# Altium schematic symbol library dungvh03-CERN_Logic.SchLib: 486 symbols (part 9 of 54)
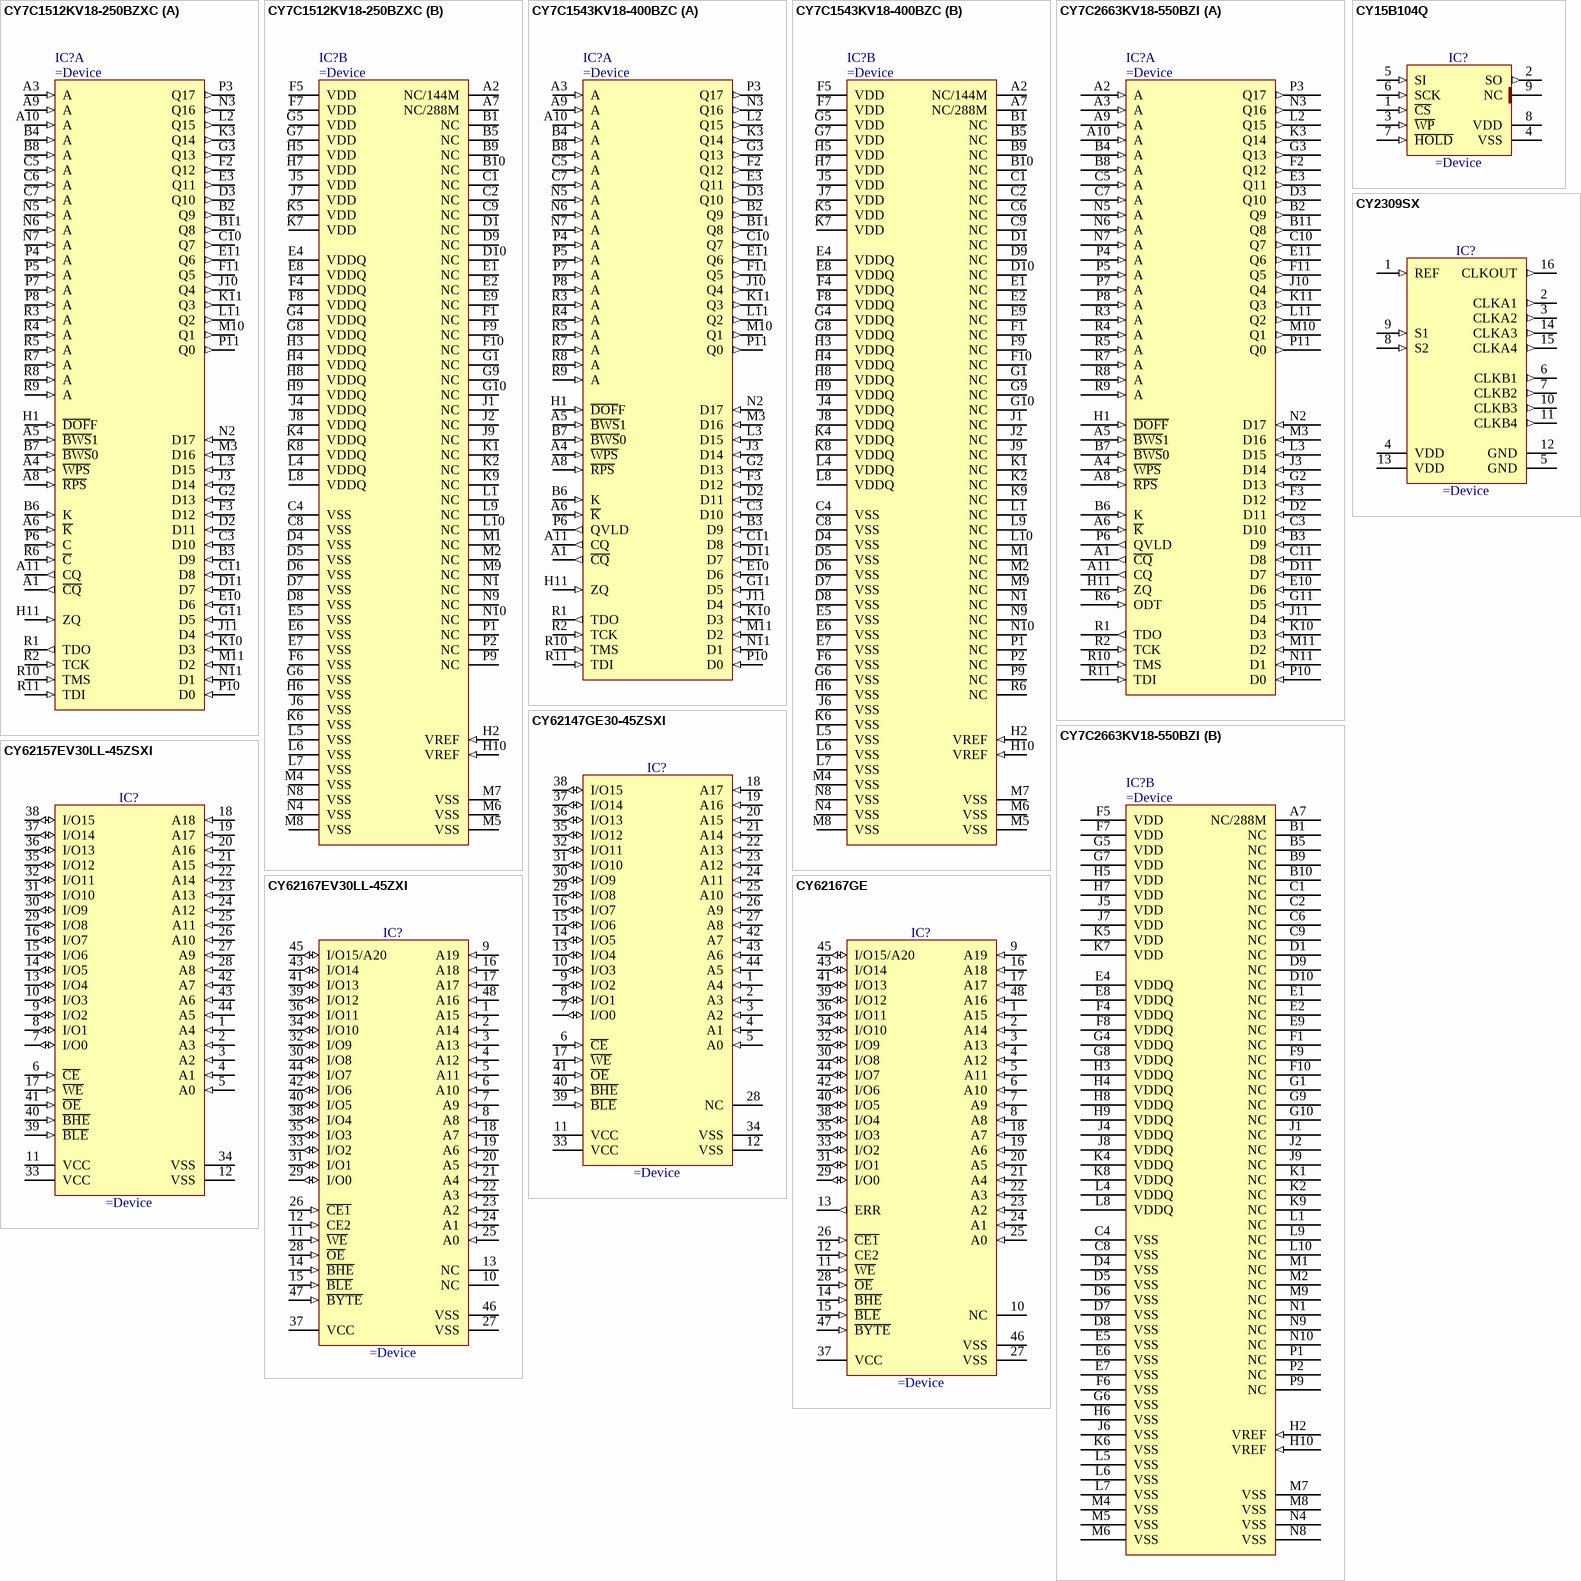
[diagram p269: symbols CY7C1512KV18-250BZXC to CY62167GE]

## CY7C2663KV18-550BZI
designator IC?
144-Mbit QDR® II+ SRAM Four-Word Burst Architecture (2.5 Cycle Read Latency) with ODT
part A pins: A1 ~{CQ} (out), A2 A (in), A3 A (in), A4 ~{WPS} (in), A5 ~{BWS}1 (in), A6 ~{K} (in), A8 ~{RPS} (in), A9 A (in), A10 A (in), A11 CQ (out), B2 Q9 (out), B3 D9 (in), B4 A (in), B6 K (in), B7 ~{BWS}0 (in), B8 A (in), B11 Q8 (out), C3 D10 (in), C5 A (in), C7 A (in), C10 Q7 (out), C11 D8 (in), D2 D11 (in), D3 Q10 (out), D11 D7 (in), E3 Q11 (out), E10 D6 (in), E11 Q6 (out), F2 Q12 (out), F3 D12 (in), F11 Q5 (out), G2 D13 (in), G3 Q13 (out), G11 D5 (in), H1 ~{DOFF} (in), H11 ZQ (in), J3 D14 (in), J10 Q4 (out), J11 D4 (in), K3 Q14 (out), K10 D3 (in), K11 Q3 (out), L2 Q15 (out), L3 D15 (in), L11 Q2 (out), M3 D16 (in), M10 Q1 (out), M11 D2 (in), N2 D17 (in), N3 Q16 (out), N5 A (in), N6 A (in), N7 A (in), N11 D1 (in), P3 Q17 (out), P4 A (in), P5 A (in), P6 QVLD (out), P7 A (in), P8 A (in), P10 D0 (in), P11 Q0 (out), R1 TDO (out), R2 TCK (in), R3 A (in), R4 A (in), R5 A (in), R6 ODT (in), R7 A (in), R8 A (in), R9 A (in), R10 TMS (in), R11 TDI (in)
part B pins: A7 NC/288M, B1 NC, B5 NC, B9 NC, B10 NC, C1 NC, C2 NC, C4 VSS (power), C6 NC, C8 VSS (power), C9 NC, D1 NC, D4 VSS (power), D5 VSS (power), D6 VSS (power), D7 VSS (power), D8 VSS (power), D9 NC, D10 NC, E1 NC, E2 NC, E4 VDDQ (power), E5 VSS (power), E6 VSS (power), E7 VSS (power), E8 VDDQ (power), E9 NC, F1 NC, F4 VDDQ (power), F5 VDD (power), F6 VSS (power), F7 VDD (power), F8 VDDQ (power), F9 NC, F10 NC, G1 NC, G4 VDDQ (power), G5 VDD (power), G6 VSS (power), G7 VDD (power), G8 VDDQ (power), G9 NC, G10 NC, H2 VREF (in), H3 VDDQ (power), H4 VDDQ (power), H5 VDD (power), H6 VSS (power), H7 VDD (power), H8 VDDQ (power), H9 VDDQ (power), H10 VREF (in), J1 NC, J2 NC, J4 VDDQ (power), J5 VDD (power), J6 VSS (power), J7 VDD (power), J8 VDDQ (power), J9 NC, K1 NC, K2 NC, K4 VDDQ (power), K5 VDD (power), K6 VSS (power), K7 VDD (power), K8 VDDQ (power), K9 NC, L1 NC, L4 VDDQ (power), L5 VSS (power), L6 VSS (power), L7 VSS (power), L8 VDDQ (power), L9 NC, L10 NC, M1 NC, M2 NC, M4 VSS (power), M5 VSS (power), M6 VSS (power), M7 VSS (power), M8 VSS (power), M9 NC, N1 NC, N4 VSS (power), N8 VSS (power), N9 NC, N10 NC, P1 NC, P2 NC, P9 NC

## CY15B104Q
designator IC?
4Mb Serial 3V F-RAM Memory
pins: 1 ~{CS} (in), 2 SO (out), 3 ~{WP} (in), 4 VSS (power), 5 SI (in), 6 SCK (in), 7 ~{HOLD} (in), 8 VDD (power), 9 NC (power) "Thermal Pad may be connected to GND or left floating (NC)"

## CY2309SX
designator IC?
Low Cost 3.3-V Zero Delay Buffer
pins: 1 REF (in), 2 CLKA1 (out), 3 CLKA2 (out), 4 VDD (power), 5 GND (power), 6 CLKB1 (out), 7 CLKB2 (out), 8 S2 (in), 9 S1 (in), 10 CLKB3 (out), 11 CLKB4 (out), 12 GND (power), 13 VDD (power), 14 CLKA3 (out), 15 CLKA4 (out), 16 CLKOUT (out)

## CY62147GE30-45ZSXI
designator IC?
4-Mbit (256K words × 16 bit),  2.2V to 3.6V, Static RAM with Error-Correcting Code (ECC)
pins: 1 A4 (in), 2 A3 (in), 3 A2 (in), 4 A1 (in), 5 A0 (in), 6 ~{CE} (in), 7 I/O0 (io), 8 I/O1 (io), 9 I/O2 (io), 10 I/O3 (io), 11 VCC (power), 12 VSS (power), 13 I/O4 (io), 14 I/O5 (io), 15 I/O6 (io), 16 I/O7 (io), 17 ~{WE} (in), 18 A17 (in), 19 A16 (in), 20 A15 (in), 21 A14 (in), 22 A13 (in), 23 A12 (in), 24 A11 (in), 25 A10 (in), 26 A9 (in), 27 A8 (in), 28 NC, 29 I/O8 (io), 30 I/O9 (io), 31 I/O10 (io), 32 I/O11 (io), 33 VCC (power), 34 VSS (power), 35 I/O12 (io), 36 I/O13 (io), 37 I/O14 (io), 38 I/O15 (io), 39 ~{BLE} (in), 40 ~{BHE} (in), 41 ~{OE} (in), 42 A7 (in), 43 A6 (in), 44 A5 (in)

## CY62157EV30LL-45ZSXI
designator IC?
8-Mbit (512 K × 16) Static RAM
pins: 1 A4 (in), 2 A3 (in), 3 A2 (in), 4 A1 (in), 5 A0 (in), 6 ~{CE} (in), 7 I/O0 (io), 8 I/O1 (io), 9 I/O2 (io), 10 I/O3 (io), 11 VCC (power), 12 VSS (power), 13 I/O4 (io), 14 I/O5 (io), 15 I/O6 (io), 16 I/O7 (io), 17 ~{WE} (in), 18 A18 (in), 19 A17 (in), 20 A16 (in), 21 A15 (in), 22 A14 (in), 23 A13 (in), 24 A12 (in), 25 A11 (in), 26 A10 (in), 27 A9 (in), 28 A8 (in), 29 I/O8 (io), 30 I/O9 (io), 31 I/O10 (io), 32 I/O11 (io), 33 VCC (power), 34 VSS (power), 35 I/O12 (io), 36 I/O13 (io), 37 I/O14 (io), 38 I/O15 (io), 39 ~{BLE} (in), 40 ~{BHE} (in), 41 ~{OE} (in), 42 A7 (in), 43 A6 (in), 44 A5 (in)

## CY62167EV30LL-45ZXI
designator IC?
16Mbit (1M x 16), 2.2V to 3.6V Static RAM
pins: 1 A15 (in), 2 A14 (in), 3 A13 (in), 4 A12 (in), 5 A11 (in), 6 A10 (in), 7 A9 (in), 8 A8 (in), 9 A19 (in), 10 NC, 11 ~{WE} (in), 12 CE2 (in), 13 NC, 14 ~{BHE} (in), 15 ~{BLE} (in), 16 A18 (in), 17 A17 (in), 18 A7 (in), 19 A6 (in), 20 A5 (in), 21 A4 (in), 22 A3 (in), 23 A2 (in), 24 A1 (in), 25 A0 (in), 26 ~{CE1} (in), 27 VSS (power), 28 ~{OE} (in), 29 I/O0 (io), 30 I/O8 (io), 31 I/O1 (io), 32 I/O9 (io), 33 I/O2 (io), 34 I/O10 (io), 35 I/O3 (io), 36 I/O11 (io), 37 VCC (power), 38 I/O4 (io), 39 I/O12 (io), 40 I/O5 (io), 41 I/O13 (io), 42 I/O6 (io), 43 I/O14 (io), 44 I/O7 (io), 45 I/O15/A20 (io), 46 VSS (power), 47 ~{BYTE} (in), 48 A16 (in)

## CY62167GE
designator IC?
16-Mbit (1M words × 16 bit / 2M words × 8 bit), 2.2V to 3.6V Static RAM with Error-Correcting Code (ECC) and ERR Pin
pins: 1 A15 (in), 2 A14 (in), 3 A13 (in), 4 A12 (in), 5 A11 (in), 6 A10 (in), 7 A9 (in), 8 A8 (in), 9 A19 (in), 10 NC, 11 ~{WE} (in), 12 CE2 (in), 13 ERR (out), 14 ~{BHE} (in), 15 ~{BLE} (in), 16 A18 (in), 17 A17 (in), 18 A7 (in), 19 A6 (in), 20 A5 (in), 21 A4 (in), 22 A3 (in), 23 A2 (in), 24 A1 (in), 25 A0 (in), 26 ~{CE1} (in), 27 VSS (power), 28 ~{OE} (in), 29 I/O0 (io), 30 I/O8 (io), 31 I/O1 (io), 32 I/O9 (io), 33 I/O2 (io), 34 I/O10 (io), 35 I/O3 (io), 36 I/O11 (io), 37 VCC (power), 38 I/O4 (io), 39 I/O12 (io), 40 I/O5 (io), 41 I/O13 (io), 42 I/O6 (io), 43 I/O14 (io), 44 I/O7 (io), 45 I/O15/A20 (io), 46 VSS (power), 47 ~{BYTE} (in), 48 A16 (in)

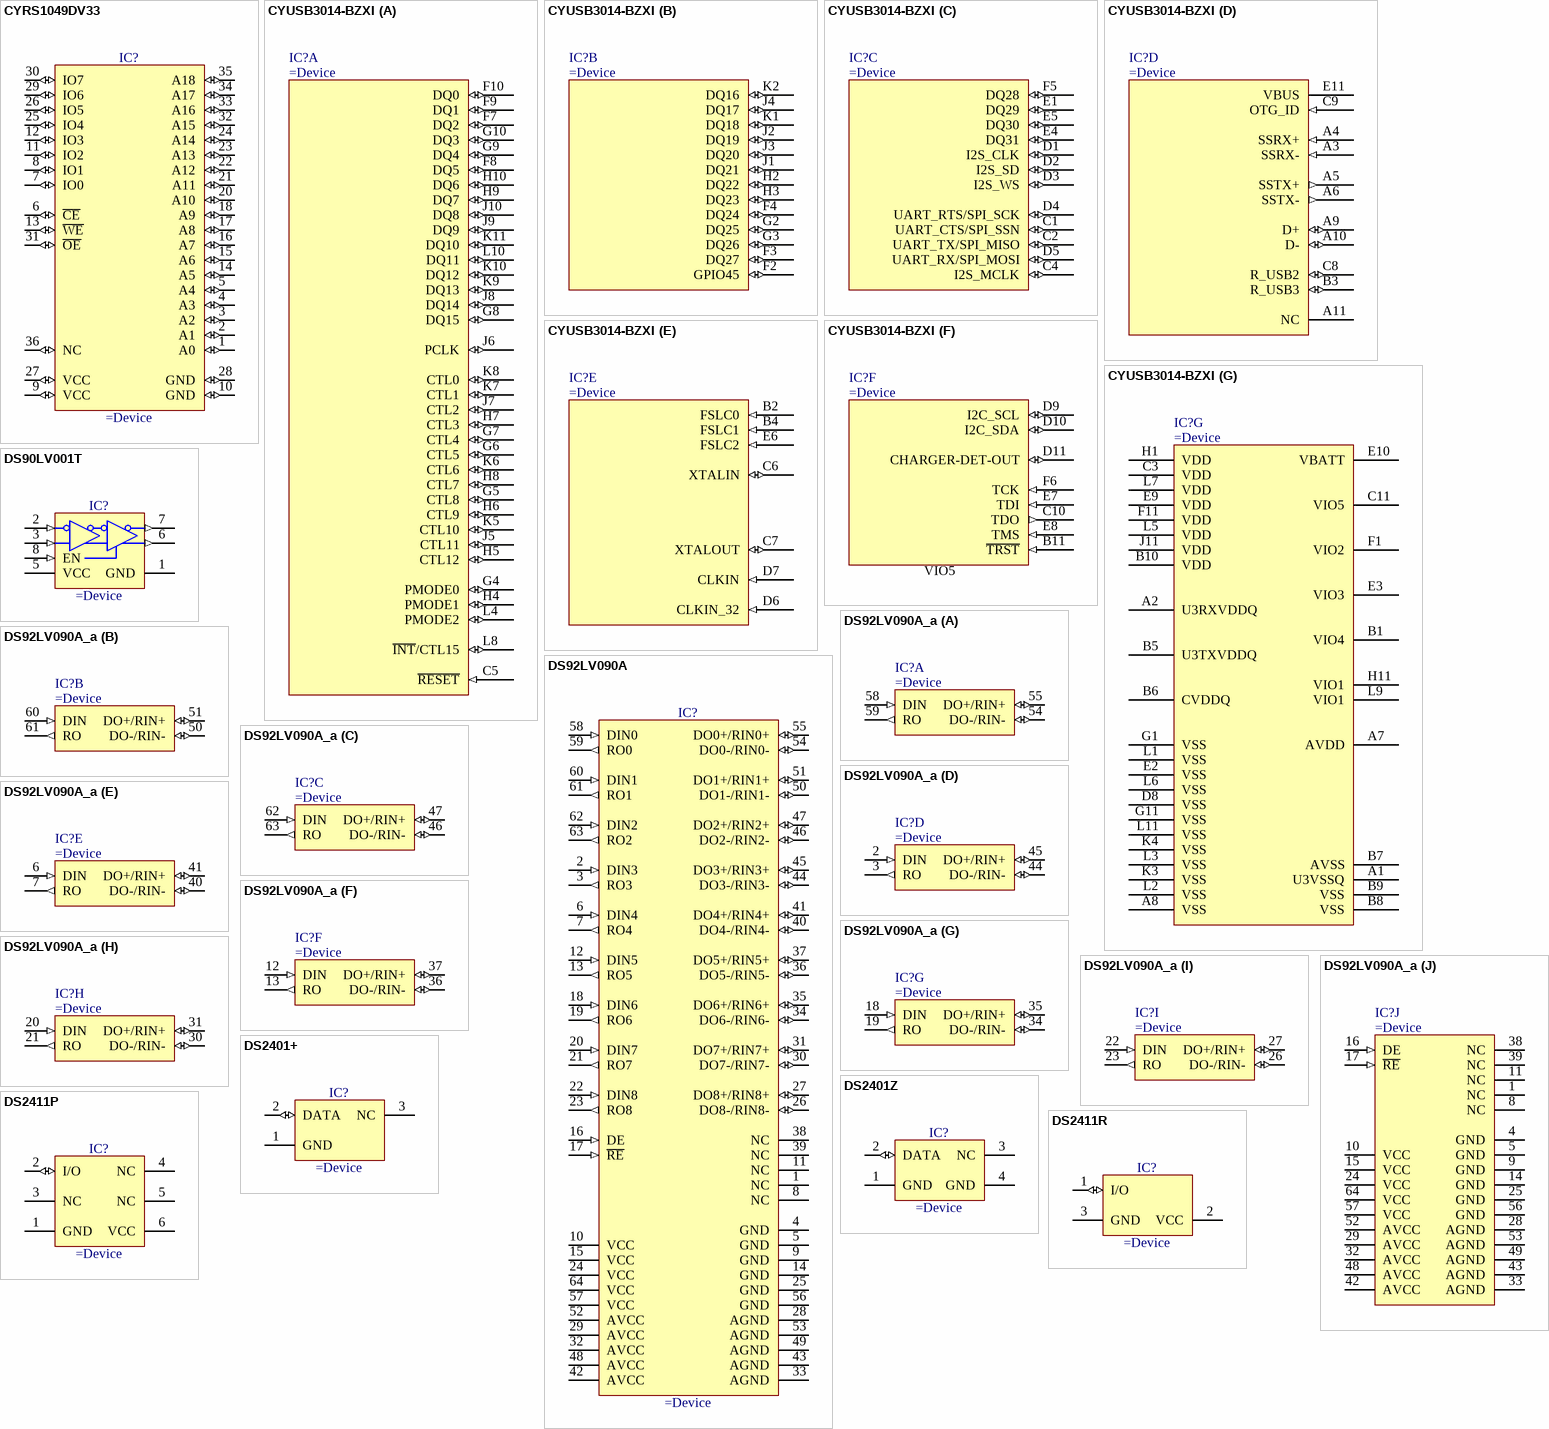
[diagram p46: symbols CYRS1049DV33 to DS2411R]

## CYRS1049DV33
designator IC?
4-Mbit (512 K × 8) Static RAM with RadStop Technology
pins: 1 A0 (io), 2 A1 (io), 3 A2 (io), 4 A3 (io), 5 A4 (io), 6 ~{CE} (io), 7 IO0 (io), 8 IO1 (io), 9 VCC (io), 10 GND (io), 11 IO2 (io), 12 IO3 (io), 13 ~{WE} (io), 14 A5 (io), 15 A6 (io), 16 A7 (io), 17 A8 (io), 18 A9 (io), 20 A10 (io), 21 A11 (io), 22 A12 (io), 23 A13 (io), 24 A14 (io), 25 IO4 (io), 26 IO5 (io), 27 VCC (io), 28 GND (io), 29 IO6 (io), 30 IO7 (io), 31 ~{OE} (io), 32 A15 (io), 33 A16 (io), 34 A17 (io), 35 A18 (io), 36 NC (io)

## CYUSB3014-BZXI
designator IC?
EZ-USB® FX3 SuperSpeed USB Controller
part A pins: C5 ~{RESET} (in), F7 DQ2 (io), F8 DQ5 (io), F9 DQ1 (io), F10 DQ0 (io), G4 PMODE0 (io), G5 CTL8 (io), G6 CTL5 (io), G7 CTL4 (io), G8 DQ15 (io), G9 DQ4 (io), G10 DQ3 (io), H4 PMODE1 (io), H5 CTL12 (io), H6 CTL9 (io), H7 CTL3 (io), H8 CTL7 (io), H9 DQ7 (io), H10 DQ6 (io), J5 CTL11 (io), J6 PCLK (io), J7 CTL2 (io), J8 DQ14 (io), J9 DQ9 (io), J10 DQ8 (io), K5 CTL10 (io), K6 CTL6 (io), K7 CTL1 (io), K8 CTL0 (io), K9 DQ13 (io), K10 DQ12 (io), K11 DQ10 (io), L4 PMODE2 (io), L8 ~{INT}/CTL15 (io), L10 DQ11 (io)
part B pins: F2 GPIO45 (io), F3 DQ27 (io), F4 DQ24 (io), G2 DQ25 (io), G3 DQ26 (io), H2 DQ22 (io), H3 DQ23 (io), J1 DQ21 (io), J2 DQ19 (io), J3 DQ20 (io), J4 DQ17 (io), K1 DQ18 (io), K2 DQ16 (io)
part C pins: C1 UART_CTS/SPI_SSN (io), C2 UART_TX/SPI_MISO (io), C4 I2S_MCLK (io), D1 I2S_CLK (io), D2 I2S_SD (io), D3 I2S_WS (io), D4 UART_RTS/SPI_SCK (io), D5 UART_RX/SPI_MOSI (io), E1 DQ29 (io), E4 DQ31 (io), E5 DQ30 (io), F5 DQ28 (io)
part D pins: A3 SSRX- (in), A4 SSRX+ (in), A5 SSTX+ (out), A6 SSTX- (out), A9 D+ (io), A10 D- (io), A11 NC, B3 R_USB3 (io), C8 R_USB2 (io), C9 OTG_ID (in), E11 VBUS (power)
part E pins: B2 FSLC0 (in), B4 FSLC1 (in), C6 XTALIN (io), C7 XTALOUT (io), D6 CLKIN_32 (in), D7 CLKIN (in), E6 FSLC2 (in)
part F pins: B11 ~{TRST} (in), C10 TDO (out), D9 I2C_SCL (io), D10 I2C_SDA (io), D11 CHARGER-DET-OUT (io), E7 TDI (in), E8 TMS (in), F6 TCK (in)
part G pins: A1 U3VSSQ (power), A2 U3RXVDDQ (power), A7 AVDD (power), A8 VSS (power), B1 VIO4 (power), B5 U3TXVDDQ (power), B6 CVDDQ (power), B7 AVSS (power), B8 VSS (power), B9 VSS (power), B10 VDD (power), C3 VDD (power), C11 VIO5 (power), D8 VSS (power), E2 VSS (power), E3 VIO3 (power), E9 VDD (power), E10 VBATT (power), F1 VIO2 (power), F11 VDD (power), G1 VSS (power), G11 VSS (power), H1 VDD (power), H11 VIO1 (power), J11 VDD (power), K3 VSS (power), K4 VSS (power), L1 VSS (power), L2 VSS (power), L3 VSS (power), L5 VDD (power), L6 VSS (power), L7 VDD (power), L9 VIO1 (power), L11 VSS (power)

## DS90LV001T
designator IC?
800 Mbps LVDS Buffer
pins: 1 GND (power), 2 IN- (in), 3 IN+ (in), 5 VCC (power), 6 OUT+ (out), 7 OUT- (out), 8 EN (in)

## DS92LV090A
designator IC?
9 Channel Bus LVDS Transceiver
pins: 1 NC, 2 DIN3 (in), 3 RO3 (out), 4 GND (power), 5 GND (power), 6 DIN4 (in), 7 RO4 (out), 8 NC, 9 GND (power), 10 VCC (power), 11 NC, 12 DIN5 (in), 13 RO5 (out), 14 GND (power), 15 VCC (power), 16 DE (in), 17 ~{RE} (in), 18 DIN6 (in), 19 RO6 (out), 20 DIN7 (in), 21 RO7 (out), 22 DIN8 (in), 23 RO8 (out), 24 VCC (power), 25 GND (power), 26 DO8-/RIN8- (io), 27 DO8+/RIN8+ (io), 28 AGND (power), 29 AVCC (power), 30 DO7-/RIN7- (io), 31 DO7+/RIN7+ (io), 32 AVCC (power), 33 AGND (power), 34 DO6-/RIN6- (io), 35 DO6+/RIN6+ (io), 36 DO5-/RIN5- (io), 37 DO5+/RIN5+ (io), 38 NC, 39 NC, 40 DO4-/RIN4- (io), 41 DO4+/RIN4+ (io), 42 AVCC (power), 43 AGND (power), 44 DO3-/RIN3- (io), 45 DO3+/RIN3+ (io), 46 DO2-/RIN2- (io), 47 DO2+/RIN2+ (io), 48 AVCC (power), 49 AGND (power), 50 DO1-/RIN1- (io), 51 DO1+/RIN1+ (io), 52 AVCC (power), 53 AGND (power), 54 DO0-/RIN0- (io), 55 DO0+/RIN0+ (io), 56 GND (power), 57 VCC (power), 58 DIN0 (in), 59 RO0 (out), 60 DIN1 (in), 61 RO1 (out), 62 DIN2 (in), 63 RO2 (out), 64 VCC (power)

## DS92LV090A_a
designator IC?
9 Channel Bus LVDS Transceiver
part A pins: 54 DO-/RIN- (io), 55 DO+/RIN+ (io), 58 DIN (in), 59 RO (out)
part B pins: 50 DO-/RIN- (io), 51 DO+/RIN+ (io), 60 DIN (in), 61 RO (out)
part C pins: 46 DO-/RIN- (io), 47 DO+/RIN+ (io), 62 DIN (in), 63 RO (out)
part D pins: 2 DIN (in), 3 RO (out), 44 DO-/RIN- (io), 45 DO+/RIN+ (io)
part E pins: 6 DIN (in), 7 RO (out), 40 DO-/RIN- (io), 41 DO+/RIN+ (io)
part F pins: 12 DIN (in), 13 RO (out), 36 DO-/RIN- (io), 37 DO+/RIN+ (io)
part G pins: 18 DIN (in), 19 RO (out), 34 DO-/RIN- (io), 35 DO+/RIN+ (io)
part H pins: 20 DIN (in), 21 RO (out), 30 DO-/RIN- (io), 31 DO+/RIN+ (io)
part I pins: 22 DIN (in), 23 RO (out), 26 DO-/RIN- (io), 27 DO+/RIN+ (io)
part J pins: 1 NC, 4 GND (power), 5 GND (power), 8 NC, 9 GND (power), 10 VCC (power), 11 NC, 14 GND (power), 15 VCC (power), 16 DE (in), 17 ~{RE} (in), 24 VCC (power), 25 GND (power), 28 AGND (power), 29 AVCC (power), 32 AVCC (power), 33 AGND (power), 38 NC, 39 NC, 42 AVCC (power), 43 AGND (power), 48 AVCC (power), 49 AGND (power), 52 AVCC (power), 53 AGND (power), 56 GND (power), 57 VCC (power), 64 VCC (power)

## DS2401+
designator IC?
Silicon Serial Number
pins: 1 GND (power), 2 DATA (io), 3 NC

## DS2401Z
designator IC?
Silicon Serial Number
pins: 1 GND (power), 2 DATA (io), 3 NC, 4 GND (power)

## DS2411P
designator IC?
Silicon Serial Number with VCC Input
pins: 1 GND (power), 2 I/O (io), 3 NC, 4 NC, 5 NC, 6 VCC (power)

## DS2411R
designator IC?
Silicon Serial Number with VCC Input
pins: 1 I/O (io), 2 VCC (power), 3 GND (power)

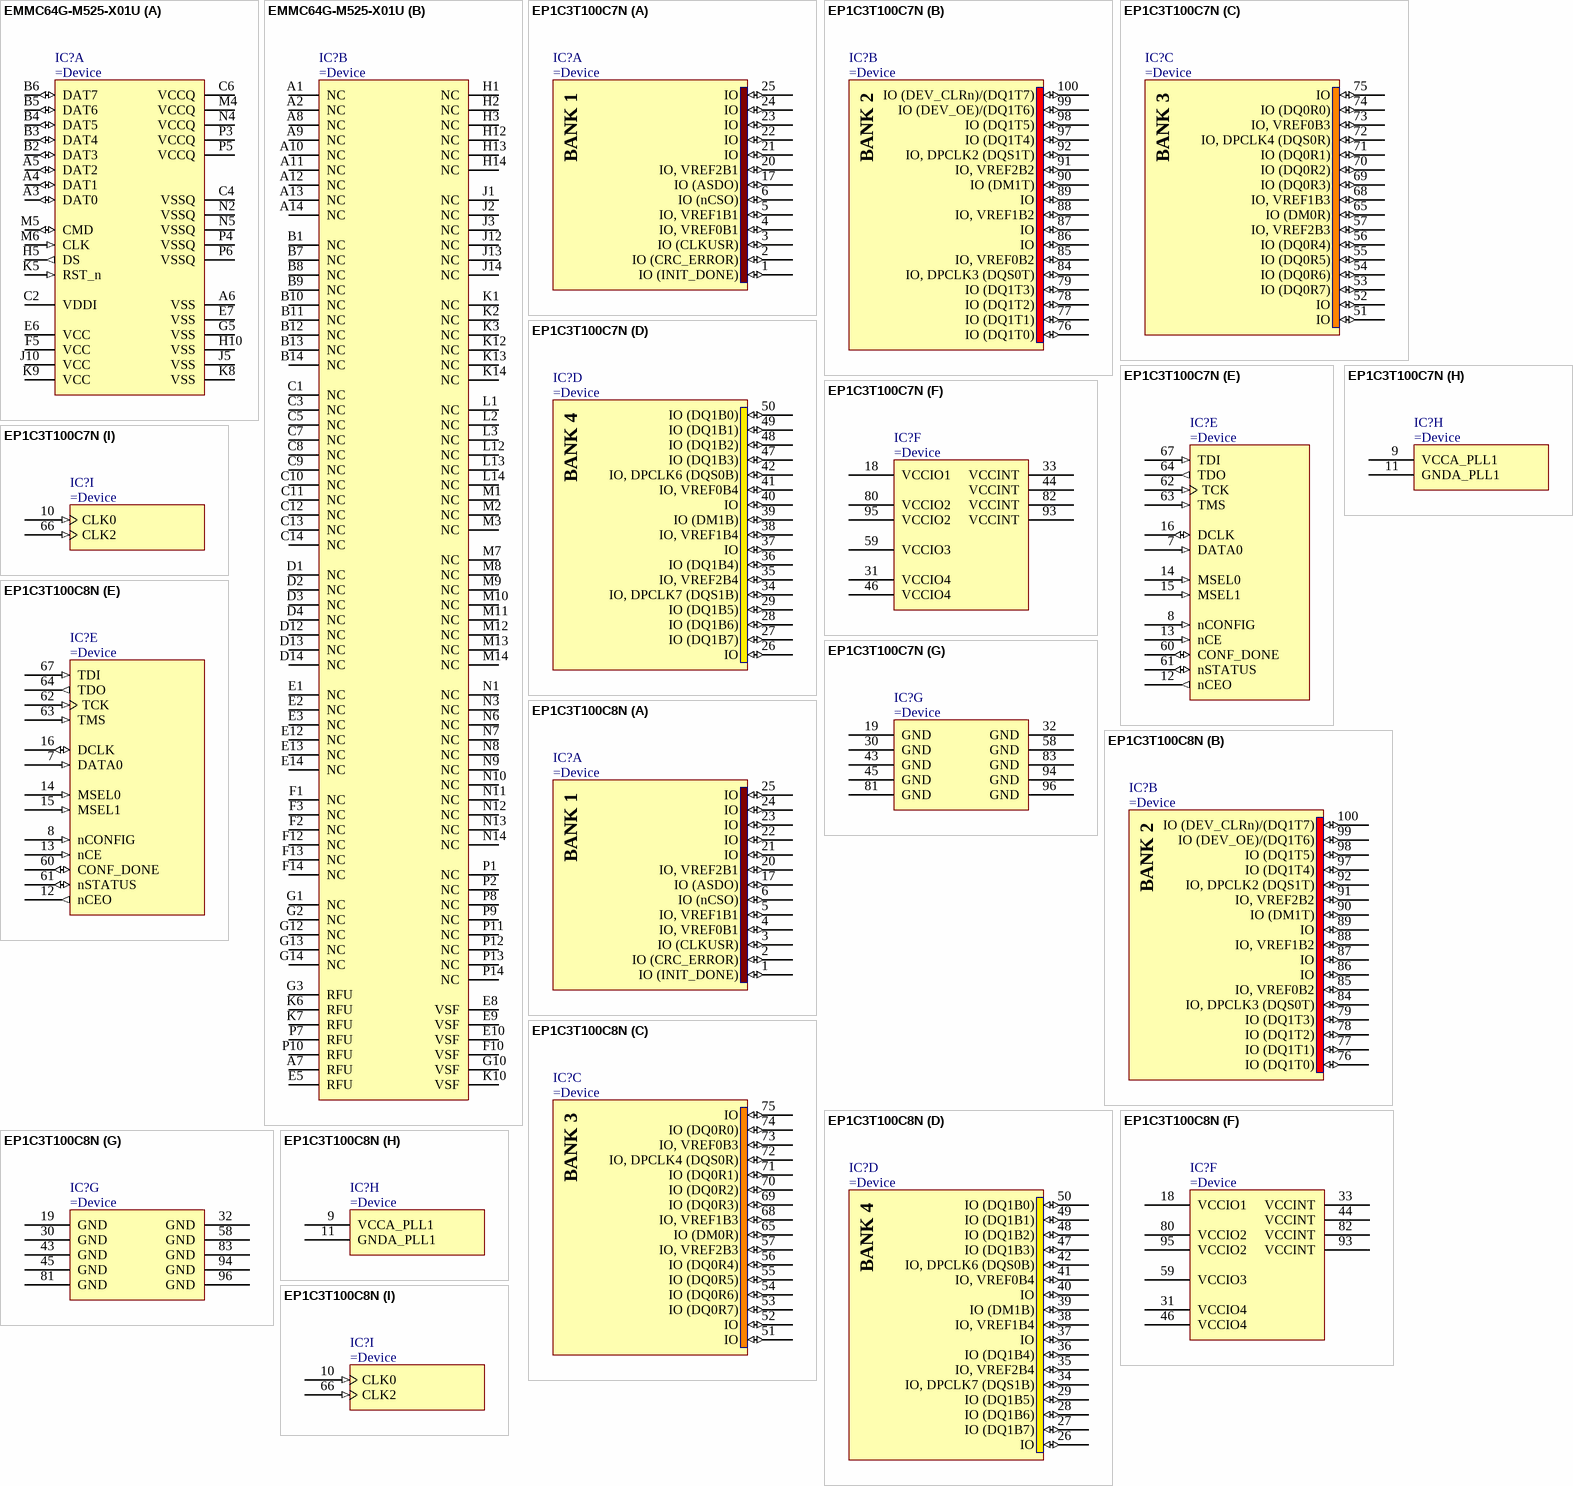
[diagram p47: symbols EMMC64G-M525-X01U to EP1C3T100C8N]

## EMMC64G-M525-X01U
designator IC?
e•MMC™ 5.0/5.1 (HS400) 64GB Flash Memory
part A pins: A3 DAT0 (io), A4 DAT1 (io), A5 DAT2 (io), A6 VSS (power), B2 DAT3 (io), B3 DAT4 (io), B4 DAT5 (io), B5 DAT6 (io), B6 DAT7 (io), C2 VDDI (power), C4 VSSQ (power), C6 VCCQ (power), E6 VCC (power), E7 VSS (power), F5 VCC (power), G5 VSS, H5 DS (out), H10 VSS (power), J5 VSS (power), J10 VCC (power), K5 RST_n (in), K8 VSS (power), K9 VCC (power), M4 VCCQ (power), M5 CMD (io), M6 CLK (in), N2 VSSQ (power), N4 VCCQ (power), N5 VSSQ (power), P3 VCCQ (power), P4 VSSQ (power), P5 VCCQ (power), P6 VSSQ (power)
part B pins: A1 NC, A2 NC, A7 RFU, A8 NC, A9 NC, A10 NC, A11 NC, A12 NC, A13 NC, A14 NC, B1 NC, B7 NC, B8 NC, B9 NC, B10 NC, B11 NC, B12 NC, B13 NC, B14 NC, C1 NC, C3 NC, C5 NC, C7 NC, C8 NC, C9 NC, C10 NC, C11 NC, C12 NC, C13 NC, C14 NC, D1 NC, D2 NC, D3 NC, D4 NC, D12 NC, D13 NC, D14 NC, E1 NC, E2 NC, E3 NC, E5 RFU, E8 VSF, E9 VSF (power), E10 VSF, E12 NC, E13 NC, E14 NC, F1 NC, F2 NC, F3 NC, F10 VSF, F12 NC, F13 NC, F14 NC, G1 NC, G2 NC, G3 RFU, G10 VSF, G12 NC, G13 NC, G14 NC, H1 NC, H2 NC, H3 NC, H12 NC, H13 NC, H14 NC, J1 NC, J2 NC, J3 NC, J12 NC, J13 NC, J14 NC, K1 NC, K2 NC, K3 NC, K6 RFU, K7 RFU, K10 VSF, K12 NC, K13 NC, K14 NC, L1 NC, L2 NC, L3 NC, L12 NC, L13 NC, L14 NC, M1 NC, M2 NC, M3 NC, M7 NC, M8 NC, M9 NC, M10 NC, M11 NC, M12 NC, M13 NC, M14 NC, N1 NC, N3 NC, N6 NC, N7 NC, N8 NC, N9 NC, N10 NC, N11 NC, N12 NC, N13 NC, N14 NC, P1 NC, P2 NC, P7 RFU, P8 NC, P9 NC, P10 RFU, P11 NC, P12 NC, P13 NC, P14 NC

## EP1C3T100C7N
designator IC?
Cyclone Family, 1.5V FPGA, 65 I/O Pins, 1 x PLL, Commercial Grade, Speed Grade 7, Pb-Free
part A pins: 1 IO (INIT_DONE) (io), 2 IO (CRC_ERROR) (io), 3 IO (CLKUSR) (io), 4 IO, VREF0B1 (io), 5 IO, VREF1B1 (io), 6 IO (nCSO) (io), 17 IO (ASDO) (io), 20 IO, VREF2B1 (io), 21 IO (io), 22 IO (io), 23 IO (io), 24 IO (io), 25 IO (io)
part B pins: 76 IO (DQ1T0) (io), 77 IO (DQ1T1) (io), 78 IO (DQ1T2) (io), 79 IO (DQ1T3) (io), 84 IO, DPCLK3 (DQS0T) (io), 85 IO, VREF0B2 (io), 86 IO (io), 87 IO (io), 88 IO, VREF1B2 (io), 89 IO (io), 90 IO (DM1T) (io), 91 IO, VREF2B2 (io), 92 IO, DPCLK2 (DQS1T) (io), 97 IO (DQ1T4) (io), 98 IO (DQ1T5) (io), 99 IO (DEV_OE)/(DQ1T6) (io), 100 IO (DEV_CLRn)/(DQ1T7) (io)
part C pins: 51 IO (io), 52 IO (io), 53 IO (DQ0R7) (io), 54 IO (DQ0R6) (io), 55 IO (DQ0R5) (io), 56 IO (DQ0R4) (io), 57 IO, VREF2B3 (io), 65 IO (DM0R) (io), 68 IO, VREF1B3 (io), 69 IO (DQ0R3) (io), 70 IO (DQ0R2) (io), 71 IO (DQ0R1) (io), 72 IO, DPCLK4 (DQS0R) (io), 73 IO, VREF0B3 (io), 74 IO (DQ0R0) (io), 75 IO (io)
part D pins: 26 IO (io), 27 IO (DQ1B7) (io), 28 IO (DQ1B6) (io), 29 IO (DQ1B5) (io), 34 IO, DPCLK7 (DQS1B) (io), 35 IO, VREF2B4 (io), 36 IO (DQ1B4) (io), 37 IO (io), 38 IO, VREF1B4 (io), 39 IO (DM1B) (io), 40 IO (io), 41 IO, VREF0B4 (io), 42 IO, DPCLK6 (DQS0B) (io), 47 IO (DQ1B3) (io), 48 IO (DQ1B2) (io), 49 IO (DQ1B1) (io), 50 IO (DQ1B0) (io)
part E pins: 7 DATA0 (in), 8 nCONFIG (in), 12 nCEO (out), 13 nCE (in), 14 MSEL0 (in), 15 MSEL1 (in), 16 DCLK (io), 60 CONF_DONE (io), 61 nSTATUS (io), 62 TCK (in), 63 TMS (in), 64 TDO (out), 67 TDI (in)
part F pins: 18 VCCIO1 (power), 31 VCCIO4 (power), 33 VCCINT (power), 44 VCCINT (power), 46 VCCIO4 (power), 59 VCCIO3 (power), 80 VCCIO2 (power), 82 VCCINT (power), 93 VCCINT (power), 95 VCCIO2 (power)
part G pins: 19 GND (power), 30 GND (power), 32 GND (power), 43 GND (power), 45 GND (power), 58 GND (power), 81 GND (power), 83 GND (power), 94 GND (power), 96 GND (power)
part H pins: 9 VCCA_PLL1 (power), 11 GNDA_PLL1 (power)
part I pins: 10 CLK0 (in), 66 CLK2 (in)
part A text: BANK 1
part B text: BANK 2
part C text: BANK 3
part D text: BANK 4

## EP1C3T100C8N
designator IC?
Cyclone Family, 1.5V FPGA, 65 I/O Pins, 1 x PLL, Commercial Grade, Speed Grade 8, Pb-Free
part A pins: 1 IO (INIT_DONE) (io), 2 IO (CRC_ERROR) (io), 3 IO (CLKUSR) (io), 4 IO, VREF0B1 (io), 5 IO, VREF1B1 (io), 6 IO (nCSO) (io), 17 IO (ASDO) (io), 20 IO, VREF2B1 (io), 21 IO (io), 22 IO (io), 23 IO (io), 24 IO (io), 25 IO (io)
part B pins: 76 IO (DQ1T0) (io), 77 IO (DQ1T1) (io), 78 IO (DQ1T2) (io), 79 IO (DQ1T3) (io), 84 IO, DPCLK3 (DQS0T) (io), 85 IO, VREF0B2 (io), 86 IO (io), 87 IO (io), 88 IO, VREF1B2 (io), 89 IO (io), 90 IO (DM1T) (io), 91 IO, VREF2B2 (io), 92 IO, DPCLK2 (DQS1T) (io), 97 IO (DQ1T4) (io), 98 IO (DQ1T5) (io), 99 IO (DEV_OE)/(DQ1T6) (io), 100 IO (DEV_CLRn)/(DQ1T7) (io)
part C pins: 51 IO (io), 52 IO (io), 53 IO (DQ0R7) (io), 54 IO (DQ0R6) (io), 55 IO (DQ0R5) (io), 56 IO (DQ0R4) (io), 57 IO, VREF2B3 (io), 65 IO (DM0R) (io), 68 IO, VREF1B3 (io), 69 IO (DQ0R3) (io), 70 IO (DQ0R2) (io), 71 IO (DQ0R1) (io), 72 IO, DPCLK4 (DQS0R) (io), 73 IO, VREF0B3 (io), 74 IO (DQ0R0) (io), 75 IO (io)
part D pins: 26 IO (io), 27 IO (DQ1B7) (io), 28 IO (DQ1B6) (io), 29 IO (DQ1B5) (io), 34 IO, DPCLK7 (DQS1B) (io), 35 IO, VREF2B4 (io), 36 IO (DQ1B4) (io), 37 IO (io), 38 IO, VREF1B4 (io), 39 IO (DM1B) (io), 40 IO (io), 41 IO, VREF0B4 (io), 42 IO, DPCLK6 (DQS0B) (io), 47 IO (DQ1B3) (io), 48 IO (DQ1B2) (io), 49 IO (DQ1B1) (io), 50 IO (DQ1B0) (io)
part E pins: 7 DATA0 (in), 8 nCONFIG (in), 12 nCEO (out), 13 nCE (in), 14 MSEL0 (in), 15 MSEL1 (in), 16 DCLK (io), 60 CONF_DONE (io), 61 nSTATUS (io), 62 TCK (in), 63 TMS (in), 64 TDO (out), 67 TDI (in)
part F pins: 18 VCCIO1 (power), 31 VCCIO4 (power), 33 VCCINT (power), 44 VCCINT (power), 46 VCCIO4 (power), 59 VCCIO3 (power), 80 VCCIO2 (power), 82 VCCINT (power), 93 VCCINT (power), 95 VCCIO2 (power)
part G pins: 19 GND (power), 30 GND (power), 32 GND (power), 43 GND (power), 45 GND (power), 58 GND (power), 81 GND (power), 83 GND (power), 94 GND (power), 96 GND (power)
part H pins: 9 VCCA_PLL1 (power), 11 GNDA_PLL1 (power)
part I pins: 10 CLK0 (in), 66 CLK2 (in)
part A text: BANK 1
part B text: BANK 2
part C text: BANK 3
part D text: BANK 4

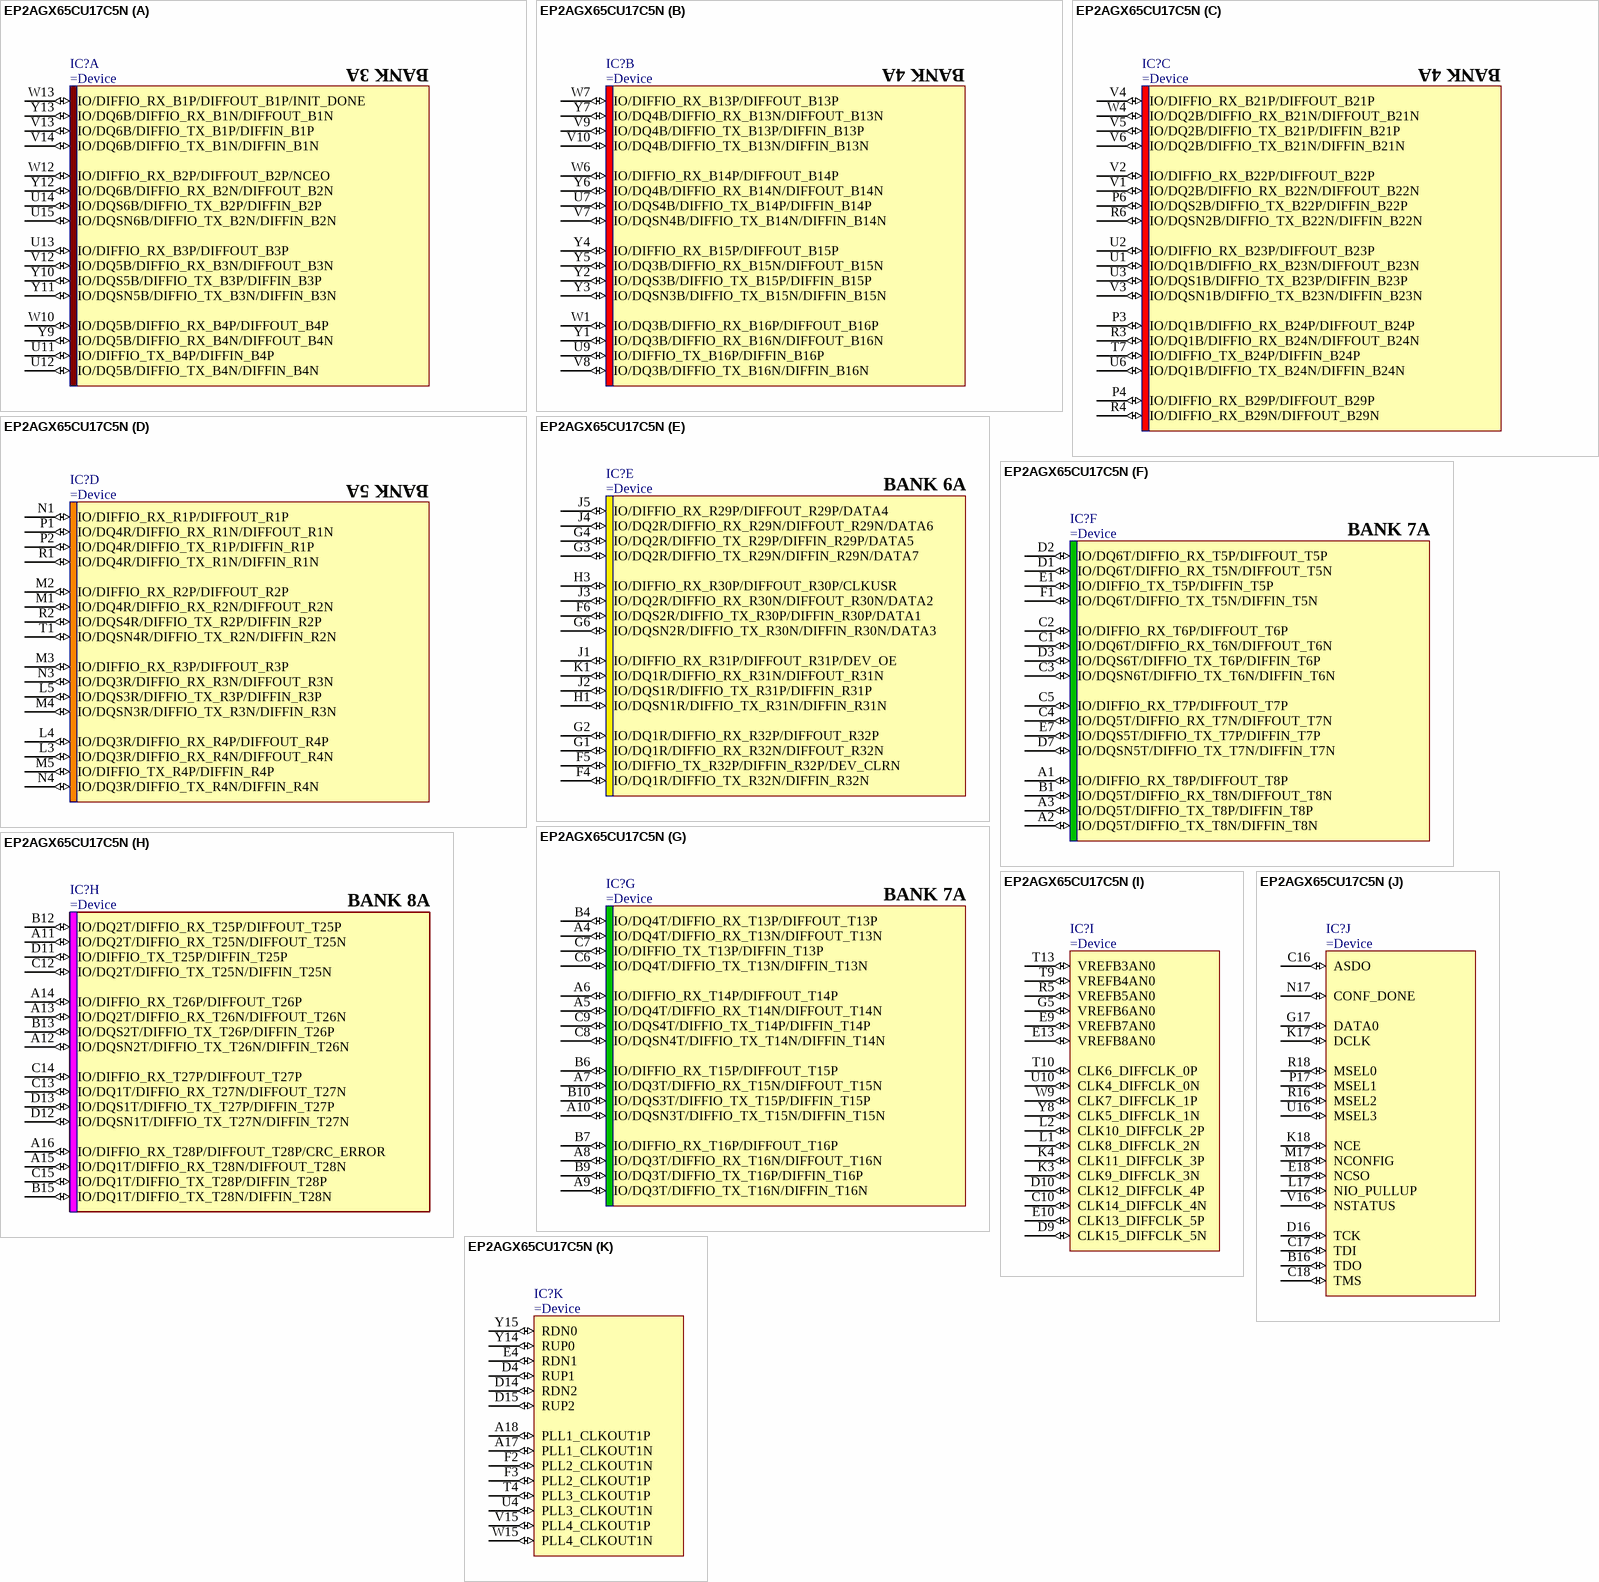
[diagram p48: symbol EP2AGX65CU17C5N]

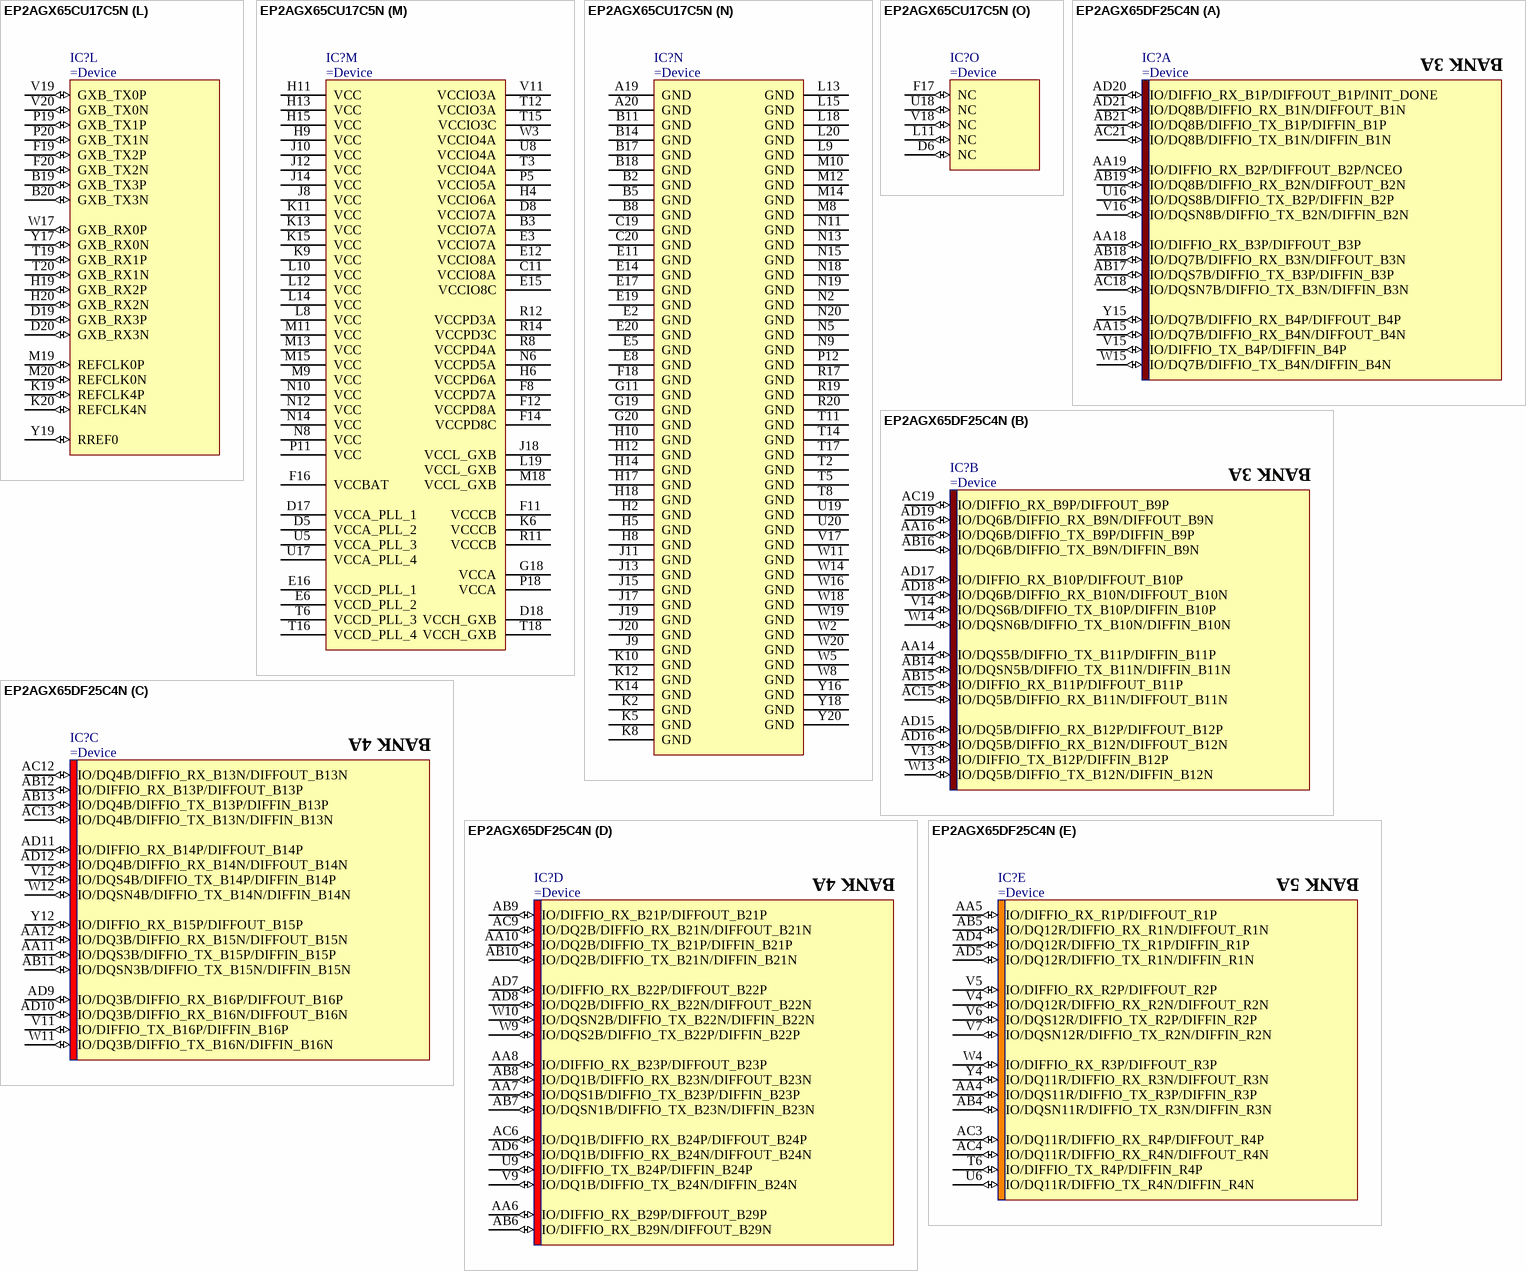
[diagram p49: symbols EP2AGX65CU17C5N to EP2AGX65DF25C4N]

## EP2AGX65CU17C5N
designator IC?
part A pins: U11 IO/DIFFIO_TX_B4P/DIFFIN_B4P (io), U12 IO/DQ5B/DIFFIO_TX_B4N/DIFFIN_B4N (io), U13 IO/DIFFIO_RX_B3P/DIFFOUT_B3P (io), U14 IO/DQS6B/DIFFIO_TX_B2P/DIFFIN_B2P (io), U15 IO/DQSN6B/DIFFIO_TX_B2N/DIFFIN_B2N (io), V12 IO/DQ5B/DIFFIO_RX_B3N/DIFFOUT_B3N (io), V13 IO/DQ6B/DIFFIO_TX_B1P/DIFFIN_B1P (io), V14 IO/DQ6B/DIFFIO_TX_B1N/DIFFIN_B1N (io), W10 IO/DQ5B/DIFFIO_RX_B4P/DIFFOUT_B4P (io), W12 IO/DIFFIO_RX_B2P/DIFFOUT_B2P/NCEO (io), W13 IO/DIFFIO_RX_B1P/DIFFOUT_B1P/INIT_DONE (io), Y9 IO/DQ5B/DIFFIO_RX_B4N/DIFFOUT_B4N (io), Y10 IO/DQS5B/DIFFIO_TX_B3P/DIFFIN_B3P (io), Y11 IO/DQSN5B/DIFFIO_TX_B3N/DIFFIN_B3N (io), Y12 IO/DQ6B/DIFFIO_RX_B2N/DIFFOUT_B2N (io), Y13 IO/DQ6B/DIFFIO_RX_B1N/DIFFOUT_B1N (io)
part B pins: U7 IO/DQS4B/DIFFIO_TX_B14P/DIFFIN_B14P (io), U9 IO/DIFFIO_TX_B16P/DIFFIN_B16P (io), V7 IO/DQSN4B/DIFFIO_TX_B14N/DIFFIN_B14N (io), V8 IO/DQ3B/DIFFIO_TX_B16N/DIFFIN_B16N (io), V9 IO/DQ4B/DIFFIO_TX_B13P/DIFFIN_B13P (io), V10 IO/DQ4B/DIFFIO_TX_B13N/DIFFIN_B13N (io), W1 IO/DQ3B/DIFFIO_RX_B16P/DIFFOUT_B16P (io), W6 IO/DIFFIO_RX_B14P/DIFFOUT_B14P (io), W7 IO/DIFFIO_RX_B13P/DIFFOUT_B13P (io), Y1 IO/DQ3B/DIFFIO_RX_B16N/DIFFOUT_B16N (io), Y2 IO/DQS3B/DIFFIO_TX_B15P/DIFFIN_B15P (io), Y3 IO/DQSN3B/DIFFIO_TX_B15N/DIFFIN_B15N (io), Y4 IO/DIFFIO_RX_B15P/DIFFOUT_B15P (io), Y5 IO/DQ3B/DIFFIO_RX_B15N/DIFFOUT_B15N (io), Y6 IO/DQ4B/DIFFIO_RX_B14N/DIFFOUT_B14N (io), Y7 IO/DQ4B/DIFFIO_RX_B13N/DIFFOUT_B13N (io)
part C pins: P3 IO/DQ1B/DIFFIO_RX_B24P/DIFFOUT_B24P (io), P4 IO/DIFFIO_RX_B29P/DIFFOUT_B29P (io), P6 IO/DQS2B/DIFFIO_TX_B22P/DIFFIN_B22P (io), R3 IO/DQ1B/DIFFIO_RX_B24N/DIFFOUT_B24N (io), R4 IO/DIFFIO_RX_B29N/DIFFOUT_B29N (io), R6 IO/DQSN2B/DIFFIO_TX_B22N/DIFFIN_B22N (io), T7 IO/DIFFIO_TX_B24P/DIFFIN_B24P (io), U1 IO/DQ1B/DIFFIO_RX_B23N/DIFFOUT_B23N (io), U2 IO/DIFFIO_RX_B23P/DIFFOUT_B23P (io), U3 IO/DQS1B/DIFFIO_TX_B23P/DIFFIN_B23P (io), U6 IO/DQ1B/DIFFIO_TX_B24N/DIFFIN_B24N (io), V1 IO/DQ2B/DIFFIO_RX_B22N/DIFFOUT_B22N (io), V2 IO/DIFFIO_RX_B22P/DIFFOUT_B22P (io), V3 IO/DQSN1B/DIFFIO_TX_B23N/DIFFIN_B23N (io), V4 IO/DIFFIO_RX_B21P/DIFFOUT_B21P (io), V5 IO/DQ2B/DIFFIO_TX_B21P/DIFFIN_B21P (io), V6 IO/DQ2B/DIFFIO_TX_B21N/DIFFIN_B21N (io), W4 IO/DQ2B/DIFFIO_RX_B21N/DIFFOUT_B21N (io)
part D pins: L3 IO/DQ3R/DIFFIO_RX_R4N/DIFFOUT_R4N (io), L4 IO/DQ3R/DIFFIO_RX_R4P/DIFFOUT_R4P (io), L5 IO/DQS3R/DIFFIO_TX_R3P/DIFFIN_R3P (io), M1 IO/DQ4R/DIFFIO_RX_R2N/DIFFOUT_R2N (io), M2 IO/DIFFIO_RX_R2P/DIFFOUT_R2P (io), M3 IO/DIFFIO_RX_R3P/DIFFOUT_R3P (io), M4 IO/DQSN3R/DIFFIO_TX_R3N/DIFFIN_R3N (io), M5 IO/DIFFIO_TX_R4P/DIFFIN_R4P (io), N1 IO/DIFFIO_RX_R1P/DIFFOUT_R1P (io), N3 IO/DQ3R/DIFFIO_RX_R3N/DIFFOUT_R3N (io), N4 IO/DQ3R/DIFFIO_TX_R4N/DIFFIN_R4N (io), P1 IO/DQ4R/DIFFIO_RX_R1N/DIFFOUT_R1N (io), P2 IO/DQ4R/DIFFIO_TX_R1P/DIFFIN_R1P (io), R1 IO/DQ4R/DIFFIO_TX_R1N/DIFFIN_R1N (io), R2 IO/DQS4R/DIFFIO_TX_R2P/DIFFIN_R2P (io), T1 IO/DQSN4R/DIFFIO_TX_R2N/DIFFIN_R2N (io)
part E pins: F4 IO/DQ1R/DIFFIO_TX_R32N/DIFFIN_R32N (io), F5 IO/DIFFIO_TX_R32P/DIFFIN_R32P/DEV_CLRN (io), F6 IO/DQS2R/DIFFIO_TX_R30P/DIFFIN_R30P/DATA1 (io), G1 IO/DQ1R/DIFFIO_RX_R32N/DIFFOUT_R32N (io), G2 IO/DQ1R/DIFFIO_RX_R32P/DIFFOUT_R32P (io), G3 IO/DQ2R/DIFFIO_TX_R29N/DIFFIN_R29N/DATA7 (io), G4 IO/DQ2R/DIFFIO_TX_R29P/DIFFIN_R29P/DATA5 (io), G6 IO/DQSN2R/DIFFIO_TX_R30N/DIFFIN_R30N/DATA3 (io), H1 IO/DQSN1R/DIFFIO_TX_R31N/DIFFIN_R31N (io), H3 IO/DIFFIO_RX_R30P/DIFFOUT_R30P/CLKUSR (io), J1 IO/DIFFIO_RX_R31P/DIFFOUT_R31P/DEV_OE (io), J2 IO/DQS1R/DIFFIO_TX_R31P/DIFFIN_R31P (io), J3 IO/DQ2R/DIFFIO_RX_R30N/DIFFOUT_R30N/DATA2 (io), J4 IO/DQ2R/DIFFIO_RX_R29N/DIFFOUT_R29N/DATA6 (io), J5 IO/DIFFIO_RX_R29P/DIFFOUT_R29P/DATA4 (io), K1 IO/DQ1R/DIFFIO_RX_R31N/DIFFOUT_R31N (io)
part F pins: A1 IO/DIFFIO_RX_T8P/DIFFOUT_T8P (io), A2 IO/DQ5T/DIFFIO_TX_T8N/DIFFIN_T8N (io), A3 IO/DQ5T/DIFFIO_TX_T8P/DIFFIN_T8P (io), B1 IO/DQ5T/DIFFIO_RX_T8N/DIFFOUT_T8N (io), C1 IO/DQ6T/DIFFIO_RX_T6N/DIFFOUT_T6N (io), C2 IO/DIFFIO_RX_T6P/DIFFOUT_T6P (io), C3 IO/DQSN6T/DIFFIO_TX_T6N/DIFFIN_T6N (io), C4 IO/DQ5T/DIFFIO_RX_T7N/DIFFOUT_T7N (io), C5 IO/DIFFIO_RX_T7P/DIFFOUT_T7P (io), D1 IO/DQ6T/DIFFIO_RX_T5N/DIFFOUT_T5N (io), D2 IO/DQ6T/DIFFIO_RX_T5P/DIFFOUT_T5P (io), D3 IO/DQS6T/DIFFIO_TX_T6P/DIFFIN_T6P (io), D7 IO/DQSN5T/DIFFIO_TX_T7N/DIFFIN_T7N (io), E1 IO/DIFFIO_TX_T5P/DIFFIN_T5P (io), E7 IO/DQS5T/DIFFIO_TX_T7P/DIFFIN_T7P (io), F1 IO/DQ6T/DIFFIO_TX_T5N/DIFFIN_T5N (io)
part G pins: A4 IO/DQ4T/DIFFIO_RX_T13N/DIFFOUT_T13N (io), A5 IO/DQ4T/DIFFIO_RX_T14N/DIFFOUT_T14N (io), A6 IO/DIFFIO_RX_T14P/DIFFOUT_T14P (io), A7 IO/DQ3T/DIFFIO_RX_T15N/DIFFOUT_T15N (io), A8 IO/DQ3T/DIFFIO_RX_T16N/DIFFOUT_T16N (io), A9 IO/DQ3T/DIFFIO_TX_T16N/DIFFIN_T16N (io), A10 IO/DQSN3T/DIFFIO_TX_T15N/DIFFIN_T15N (io), B4 IO/DQ4T/DIFFIO_RX_T13P/DIFFOUT_T13P (io), B6 IO/DIFFIO_RX_T15P/DIFFOUT_T15P (io), B7 IO/DIFFIO_RX_T16P/DIFFOUT_T16P (io), B9 IO/DQ3T/DIFFIO_TX_T16P/DIFFIN_T16P (io), B10 IO/DQS3T/DIFFIO_TX_T15P/DIFFIN_T15P (io), C6 IO/DQ4T/DIFFIO_TX_T13N/DIFFIN_T13N (io), C7 IO/DIFFIO_TX_T13P/DIFFIN_T13P (io), C8 IO/DQSN4T/DIFFIO_TX_T14N/DIFFIN_T14N (io), C9 IO/DQS4T/DIFFIO_TX_T14P/DIFFIN_T14P (io)
part H pins: A11 IO/DQ2T/DIFFIO_RX_T25N/DIFFOUT_T25N (io), A12 IO/DQSN2T/DIFFIO_TX_T26N/DIFFIN_T26N (io), A13 IO/DQ2T/DIFFIO_RX_T26N/DIFFOUT_T26N (io), A14 IO/DIFFIO_RX_T26P/DIFFOUT_T26P (io), A15 IO/DQ1T/DIFFIO_RX_T28N/DIFFOUT_T28N (io), A16 IO/DIFFIO_RX_T28P/DIFFOUT_T28P/CRC_ERROR (io), B12 IO/DQ2T/DIFFIO_RX_T25P/DIFFOUT_T25P (io), B13 IO/DQS2T/DIFFIO_TX_T26P/DIFFIN_T26P (io), B15 IO/DQ1T/DIFFIO_TX_T28N/DIFFIN_T28N (io), C12 IO/DQ2T/DIFFIO_TX_T25N/DIFFIN_T25N (io), C13 IO/DQ1T/DIFFIO_RX_T27N/DIFFOUT_T27N (io), C14 IO/DIFFIO_RX_T27P/DIFFOUT_T27P (io), C15 IO/DQ1T/DIFFIO_TX_T28P/DIFFIN_T28P (io), D11 IO/DIFFIO_TX_T25P/DIFFIN_T25P (io), D12 IO/DQSN1T/DIFFIO_TX_T27N/DIFFIN_T27N (io), D13 IO/DQS1T/DIFFIO_TX_T27P/DIFFIN_T27P (io)
part I pins: C10 CLK14_DIFFCLK_4N (io), D9 CLK15_DIFFCLK_5N (io), D10 CLK12_DIFFCLK_4P (io), E9 VREFB7AN0 (io), E10 CLK13_DIFFCLK_5P (io), E13 VREFB8AN0 (io), G5 VREFB6AN0 (io), K3 CLK9_DIFFCLK_3N (io), K4 CLK11_DIFFCLK_3P (io), L1 CLK8_DIFFCLK_2N (io), L2 CLK10_DIFFCLK_2P (io), R5 VREFB5AN0 (io), T9 VREFB4AN0 (io), T10 CLK6_DIFFCLK_0P (io), T13 VREFB3AN0 (io), U10 CLK4_DIFFCLK_0N (io), W9 CLK7_DIFFCLK_1P (io), Y8 CLK5_DIFFCLK_1N (io)
part J pins: B16 TDO (io), C16 ASDO (io), C17 TDI (io), C18 TMS (io), D16 TCK (io), E18 NCSO (io), G17 DATA0 (io), K17 DCLK (io), K18 NCE (io), L17 NIO_PULLUP (io), M17 NCONFIG (io), N17 CONF_DONE (io), P17 MSEL1 (io), R16 MSEL2 (io), R18 MSEL0 (io), U16 MSEL3 (io), V16 NSTATUS (io)
part K pins: A17 PLL1_CLKOUT1N (io), A18 PLL1_CLKOUT1P (io), D4 RUP1 (io), D14 RDN2 (io), D15 RUP2 (io), E4 RDN1 (io), F2 PLL2_CLKOUT1N (io), F3 PLL2_CLKOUT1P (io), T4 PLL3_CLKOUT1P (io), U4 PLL3_CLKOUT1N (io), V15 PLL4_CLKOUT1P (io), W15 PLL4_CLKOUT1N (io), Y14 RUP0 (io), Y15 RDN0 (io)
part L pins: B19 GXB_TX3P (io), B20 GXB_TX3N (io), D19 GXB_RX3P (io), D20 GXB_RX3N (io), F19 GXB_TX2P (io), F20 GXB_TX2N (io), H19 GXB_RX2P (io), H20 GXB_RX2N (io), K19 REFCLK4P (io), K20 REFCLK4N (io), M19 REFCLK0P (io), M20 REFCLK0N (io), P19 GXB_TX1P (io), P20 GXB_TX1N (io), T19 GXB_RX1P (io), T20 GXB_RX1N (io), V19 GXB_TX0P (io), V20 GXB_TX0N (io), W17 GXB_RX0P (io), Y17 GXB_RX0N (io), Y19 RREF0 (io)
part M pins: B3 VCCIO7A (power), C11 VCCIO8A (power), D5 VCCA_PLL_2 (power), D8 VCCIO7A (power), D17 VCCA_PLL_1 (power), D18 VCCH_GXB (power), E3 VCCIO7A (power), E6 VCCD_PLL_2 (power), E12 VCCIO8A (power), E15 VCCIO8C (power), E16 VCCD_PLL_1 (power), F8 VCCPD7A (power), F11 VCCCB (power), F12 VCCPD8A (power), F14 VCCPD8C (power), F16 VCCBAT (power), G18 VCCA (power), H4 VCCIO6A (power), H6 VCCPD6A (power), H9 VCC (power), H11 VCC (power), H13 VCC (power), H15 VCC (power), J8 VCC (power), J10 VCC (power), J12 VCC (power), J14 VCC (power), J18 VCCL_GXB (power), K6 VCCCB (power), K9 VCC (power), K11 VCC (power), K13 VCC (power), K15 VCC (power), L8 VCC (power), L10 VCC (power), L12 VCC (power), L14 VCC (power), L19 VCCL_GXB (power), M9 VCC (power), M11 VCC (power), M13 VCC (power), M15 VCC (power), M18 VCCL_GXB (power), N6 VCCPD5A (power), N8 VCC (power), N10 VCC (power), N12 VCC (power), N14 VCC (power), P5 VCCIO5A (power), P11 VCC (power), P18 VCCA (power), R8 VCCPD4A (power), R11 VCCCB (power), R12 VCCPD3A (power), R14 VCCPD3C (power), T3 VCCIO4A (power), T6 VCCD_PLL_3 (power), T12 VCCIO3A (power), T15 VCCIO3C (power), T16 VCCD_PLL_4 (power), T18 VCCH_GXB (power), U5 VCCA_PLL_3 (power), U8 VCCIO4A (power), U17 VCCA_PLL_4 (power), V11 VCCIO3A (power), W3 VCCIO4A (power)
part N pins: A19 GND (power), A20 GND (power), B2 GND (power), B5 GND (power), B8 GND (power), B11 GND (power), B14 GND (power), B17 GND (power), B18 GND (power), C19 GND (power), C20 GND (power), E2 GND (power), E5 GND (power), E8 GND (power), E11 GND (power), E14 GND (power), E17 GND (power), E19 GND (power), E20 GND (power), F18 GND (power), G11 GND (power), G19 GND (power), G20 GND (power), H2 GND (power), H5 GND (power), H8 GND (power), H10 GND (power), H12 GND (power), H14 GND (power), H17 GND (power), H18 GND (power), J9 GND (power), J11 GND (power), J13 GND (power), J15 GND (power), J17 GND (power), J19 GND (power), J20 GND (power), K2 GND (power), K5 GND (power), K8 GND (power), K10 GND (power), K12 GND (power), K14 GND (power), L9 GND (power), L13 GND (power), L15 GND (power), L18 GND (power), L20 GND (power), M8 GND (power), M10 GND (power), M12 GND (power), M14 GND (power), N2 GND (power), N5 GND (power), N9 GND (power), N11 GND (power), N13 GND (power), N15 GND (power), N18 GND (power), N19 GND (power), N20 GND (power), P12 GND (power), R17 GND (power), R19 GND (power), R20 GND (power), T2 GND (power), T5 GND (power), T8 GND (power), T11 GND (power), T14 GND (power), T17 GND (power), U19 GND (power), U20 GND (power), V17 GND (power), W2 GND (power), W5 GND (power), W8 GND (power), W11 GND (power), W14 GND (power), W16 GND (power), W18 GND (power), W19 GND (power), W20 GND (power), Y16 GND (power), Y18 GND (power), Y20 GND (power)
part O pins: D6 NC (io), F17 NC (io), L11 NC (io), U18 NC (io), V18 NC (io)
part A text: BANK 3A
part B text: BANK 4A
part C text: BANK 4A
part D text: BANK 5A
part E text: BANK 6A
part F text: BANK 7A
part G text: BANK 7A
part H text: BANK 8A

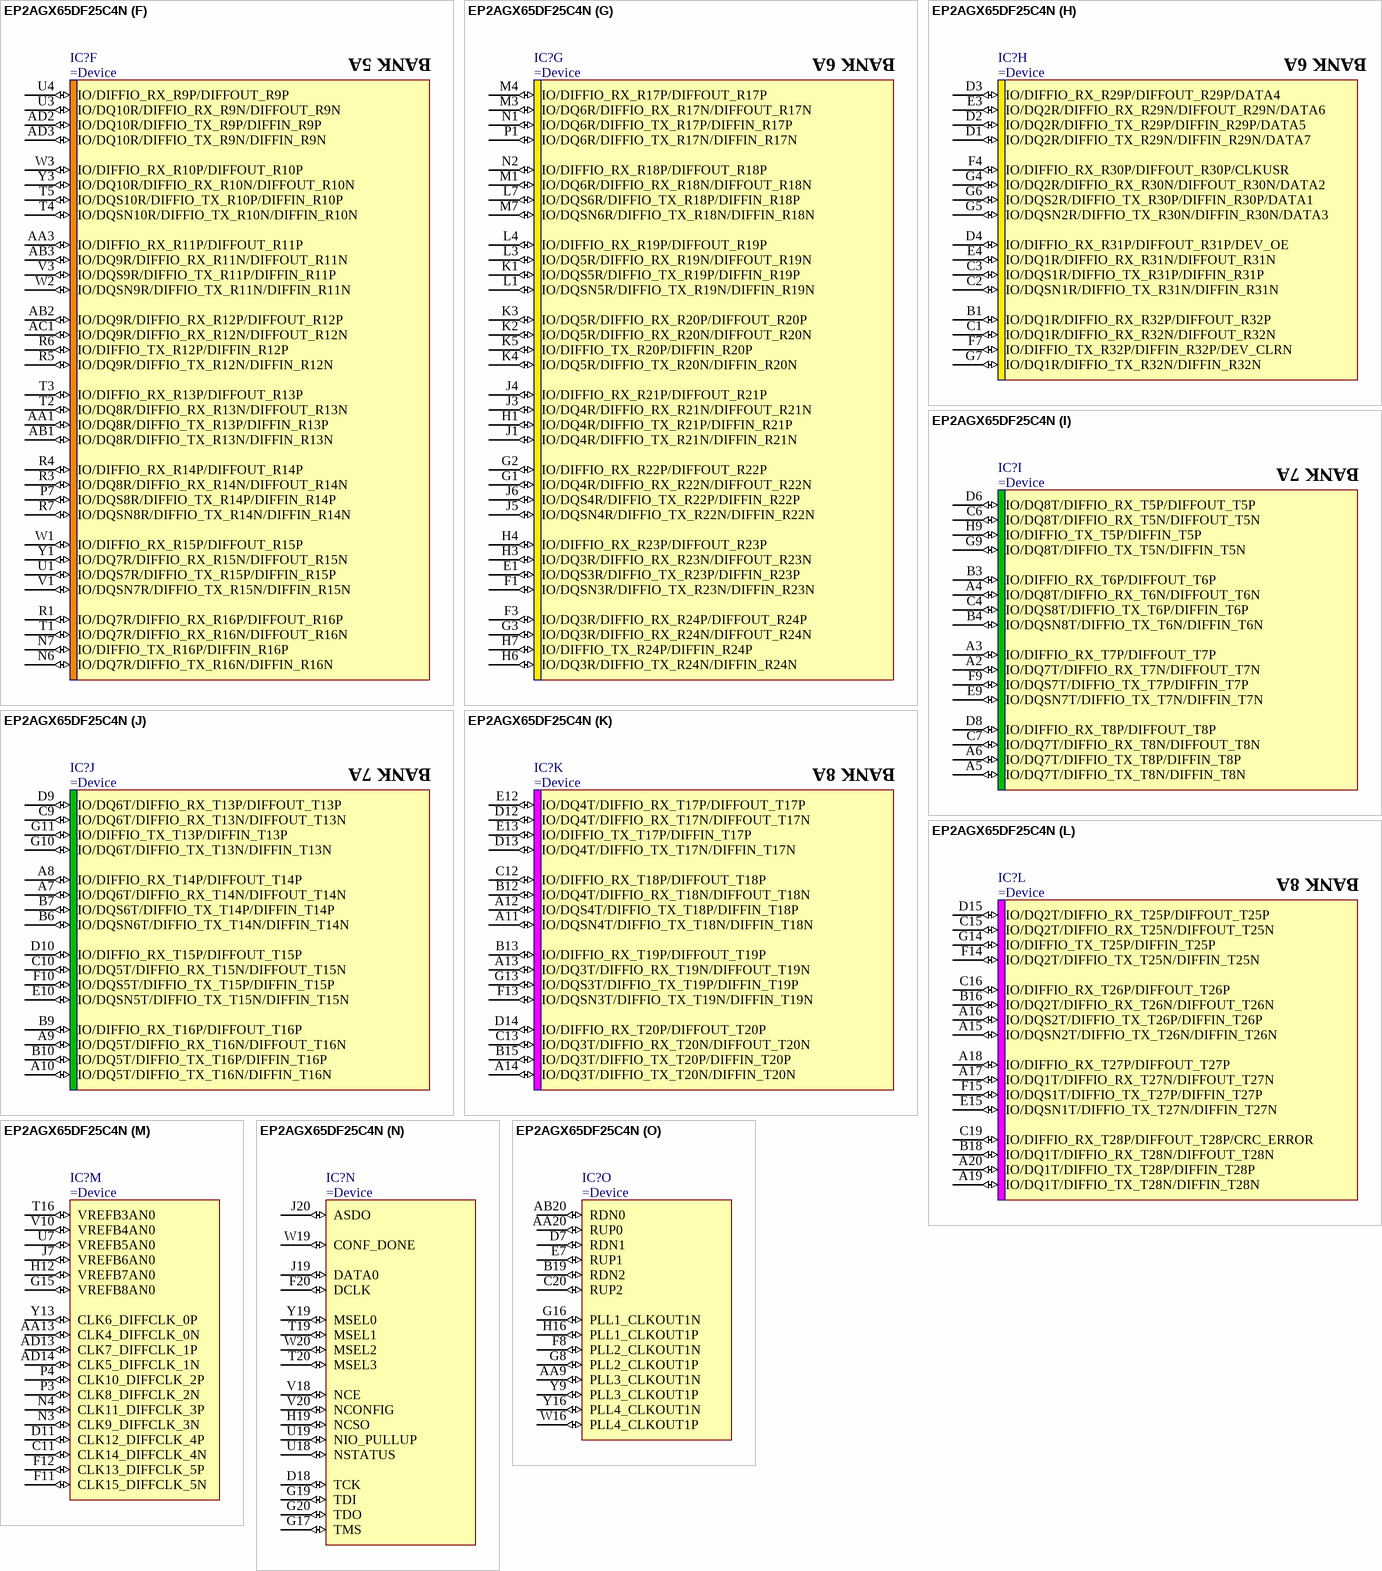
[diagram p50: symbol EP2AGX65DF25C4N]

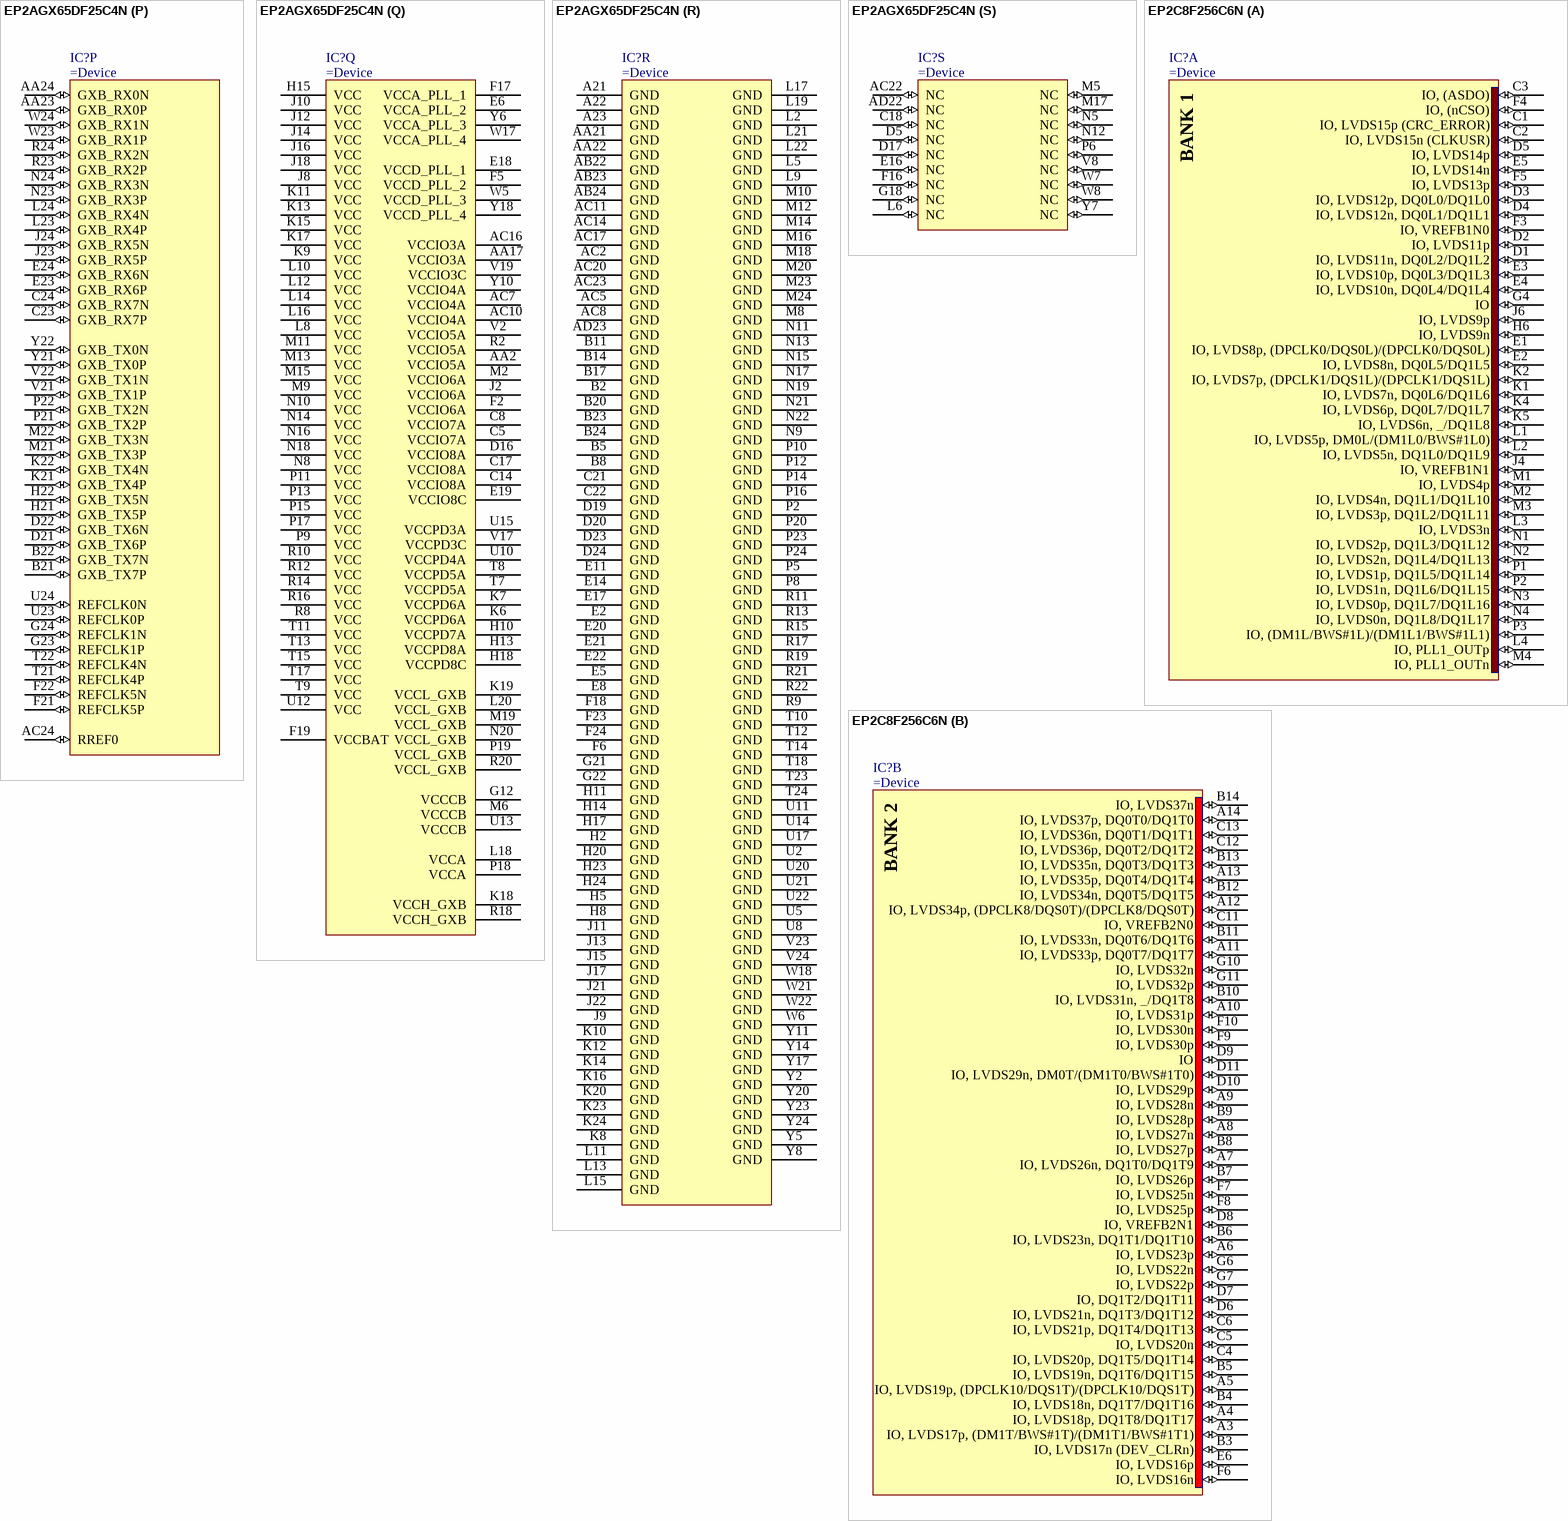
[diagram p51: symbols EP2AGX65DF25C4N to EP2C8F256C6N]

## EP2AGX65DF25C4N
designator IC?
part A pins: AA15 IO/DQ7B/DIFFIO_RX_B4N/DIFFOUT_B4N (io), AA18 IO/DIFFIO_RX_B3P/DIFFOUT_B3P (io), AA19 IO/DIFFIO_RX_B2P/DIFFOUT_B2P/NCEO (io), AB17 IO/DQS7B/DIFFIO_TX_B3P/DIFFIN_B3P (io), AB18 IO/DQ7B/DIFFIO_RX_B3N/DIFFOUT_B3N (io), AB19 IO/DQ8B/DIFFIO_RX_B2N/DIFFOUT_B2N (io), AB21 IO/DQ8B/DIFFIO_TX_B1P/DIFFIN_B1P (io), AC18 IO/DQSN7B/DIFFIO_TX_B3N/DIFFIN_B3N (io), AC21 IO/DQ8B/DIFFIO_TX_B1N/DIFFIN_B1N (io), AD20 IO/DIFFIO_RX_B1P/DIFFOUT_B1P/INIT_DONE (io), AD21 IO/DQ8B/DIFFIO_RX_B1N/DIFFOUT_B1N (io), U16 IO/DQS8B/DIFFIO_TX_B2P/DIFFIN_B2P (io), V15 IO/DIFFIO_TX_B4P/DIFFIN_B4P (io), V16 IO/DQSN8B/DIFFIO_TX_B2N/DIFFIN_B2N (io), W15 IO/DQ7B/DIFFIO_TX_B4N/DIFFIN_B4N (io), Y15 IO/DQ7B/DIFFIO_RX_B4P/DIFFOUT_B4P (io)
part B pins: AA14 IO/DQS5B/DIFFIO_TX_B11P/DIFFIN_B11P (io), AA16 IO/DQ6B/DIFFIO_TX_B9P/DIFFIN_B9P (io), AB14 IO/DQSN5B/DIFFIO_TX_B11N/DIFFIN_B11N (io), AB15 IO/DIFFIO_RX_B11P/DIFFOUT_B11P (io), AB16 IO/DQ6B/DIFFIO_TX_B9N/DIFFIN_B9N (io), AC15 IO/DQ5B/DIFFIO_RX_B11N/DIFFOUT_B11N (io), AC19 IO/DIFFIO_RX_B9P/DIFFOUT_B9P (io), AD15 IO/DQ5B/DIFFIO_RX_B12P/DIFFOUT_B12P (io), AD16 IO/DQ5B/DIFFIO_RX_B12N/DIFFOUT_B12N (io), AD17 IO/DIFFIO_RX_B10P/DIFFOUT_B10P (io), AD18 IO/DQ6B/DIFFIO_RX_B10N/DIFFOUT_B10N (io), AD19 IO/DQ6B/DIFFIO_RX_B9N/DIFFOUT_B9N (io), V13 IO/DIFFIO_TX_B12P/DIFFIN_B12P (io), V14 IO/DQS6B/DIFFIO_TX_B10P/DIFFIN_B10P (io), W13 IO/DQ5B/DIFFIO_TX_B12N/DIFFIN_B12N (io), W14 IO/DQSN6B/DIFFIO_TX_B10N/DIFFIN_B10N (io)
part C pins: AA11 IO/DQS3B/DIFFIO_TX_B15P/DIFFIN_B15P (io), AA12 IO/DQ3B/DIFFIO_RX_B15N/DIFFOUT_B15N (io), AB11 IO/DQSN3B/DIFFIO_TX_B15N/DIFFIN_B15N (io), AB12 IO/DIFFIO_RX_B13P/DIFFOUT_B13P (io), AB13 IO/DQ4B/DIFFIO_TX_B13P/DIFFIN_B13P (io), AC12 IO/DQ4B/DIFFIO_RX_B13N/DIFFOUT_B13N (io), AC13 IO/DQ4B/DIFFIO_TX_B13N/DIFFIN_B13N (io), AD9 IO/DQ3B/DIFFIO_RX_B16P/DIFFOUT_B16P (io), AD10 IO/DQ3B/DIFFIO_RX_B16N/DIFFOUT_B16N (io), AD11 IO/DIFFIO_RX_B14P/DIFFOUT_B14P (io), AD12 IO/DQ4B/DIFFIO_RX_B14N/DIFFOUT_B14N (io), V11 IO/DIFFIO_TX_B16P/DIFFIN_B16P (io), V12 IO/DQS4B/DIFFIO_TX_B14P/DIFFIN_B14P (io), W11 IO/DQ3B/DIFFIO_TX_B16N/DIFFIN_B16N (io), W12 IO/DQSN4B/DIFFIO_TX_B14N/DIFFIN_B14N (io), Y12 IO/DIFFIO_RX_B15P/DIFFOUT_B15P (io)
part D pins: AA6 IO/DIFFIO_RX_B29P/DIFFOUT_B29P (io), AA7 IO/DQS1B/DIFFIO_TX_B23P/DIFFIN_B23P (io), AA8 IO/DIFFIO_RX_B23P/DIFFOUT_B23P (io), AA10 IO/DQ2B/DIFFIO_TX_B21P/DIFFIN_B21P (io), AB6 IO/DIFFIO_RX_B29N/DIFFOUT_B29N (io), AB7 IO/DQSN1B/DIFFIO_TX_B23N/DIFFIN_B23N (io), AB8 IO/DQ1B/DIFFIO_RX_B23N/DIFFOUT_B23N (io), AB9 IO/DIFFIO_RX_B21P/DIFFOUT_B21P (io), AB10 IO/DQ2B/DIFFIO_TX_B21N/DIFFIN_B21N (io), AC6 IO/DQ1B/DIFFIO_RX_B24P/DIFFOUT_B24P (io), AC9 IO/DQ2B/DIFFIO_RX_B21N/DIFFOUT_B21N (io), AD6 IO/DQ1B/DIFFIO_RX_B24N/DIFFOUT_B24N (io), AD7 IO/DIFFIO_RX_B22P/DIFFOUT_B22P (io), AD8 IO/DQ2B/DIFFIO_RX_B22N/DIFFOUT_B22N (io), U9 IO/DIFFIO_TX_B24P/DIFFIN_B24P (io), V9 IO/DQ1B/DIFFIO_TX_B24N/DIFFIN_B24N (io), W9 IO/DQS2B/DIFFIO_TX_B22P/DIFFIN_B22P (io), W10 IO/DQSN2B/DIFFIO_TX_B22N/DIFFIN_B22N (io)
part E pins: AA4 IO/DQS11R/DIFFIO_TX_R3P/DIFFIN_R3P (io), AA5 IO/DIFFIO_RX_R1P/DIFFOUT_R1P (io), AB4 IO/DQSN11R/DIFFIO_TX_R3N/DIFFIN_R3N (io), AB5 IO/DQ12R/DIFFIO_RX_R1N/DIFFOUT_R1N (io), AC3 IO/DQ11R/DIFFIO_RX_R4P/DIFFOUT_R4P (io), AC4 IO/DQ11R/DIFFIO_RX_R4N/DIFFOUT_R4N (io), AD4 IO/DQ12R/DIFFIO_TX_R1P/DIFFIN_R1P (io), AD5 IO/DQ12R/DIFFIO_TX_R1N/DIFFIN_R1N (io), T6 IO/DIFFIO_TX_R4P/DIFFIN_R4P (io), U6 IO/DQ11R/DIFFIO_TX_R4N/DIFFIN_R4N (io), V4 IO/DQ12R/DIFFIO_RX_R2N/DIFFOUT_R2N (io), V5 IO/DIFFIO_RX_R2P/DIFFOUT_R2P (io), V6 IO/DQS12R/DIFFIO_TX_R2P/DIFFIN_R2P (io), V7 IO/DQSN12R/DIFFIO_TX_R2N/DIFFIN_R2N (io), W4 IO/DIFFIO_RX_R3P/DIFFOUT_R3P (io), Y4 IO/DQ11R/DIFFIO_RX_R3N/DIFFOUT_R3N (io)
part F pins: AA1 IO/DQ8R/DIFFIO_TX_R13P/DIFFIN_R13P (io), AA3 IO/DIFFIO_RX_R11P/DIFFOUT_R11P (io), AB1 IO/DQ8R/DIFFIO_TX_R13N/DIFFIN_R13N (io), AB2 IO/DQ9R/DIFFIO_RX_R12P/DIFFOUT_R12P (io), AB3 IO/DQ9R/DIFFIO_RX_R11N/DIFFOUT_R11N (io), AC1 IO/DQ9R/DIFFIO_RX_R12N/DIFFOUT_R12N (io), AD2 IO/DQ10R/DIFFIO_TX_R9P/DIFFIN_R9P (io), AD3 IO/DQ10R/DIFFIO_TX_R9N/DIFFIN_R9N (io), N6 IO/DQ7R/DIFFIO_TX_R16N/DIFFIN_R16N (io), N7 IO/DIFFIO_TX_R16P/DIFFIN_R16P (io), P7 IO/DQS8R/DIFFIO_TX_R14P/DIFFIN_R14P (io), R1 IO/DQ7R/DIFFIO_RX_R16P/DIFFOUT_R16P (io), R3 IO/DQ8R/DIFFIO_RX_R14N/DIFFOUT_R14N (io), R4 IO/DIFFIO_RX_R14P/DIFFOUT_R14P (io), R5 IO/DQ9R/DIFFIO_TX_R12N/DIFFIN_R12N (io), R6 IO/DIFFIO_TX_R12P/DIFFIN_R12P (io), R7 IO/DQSN8R/DIFFIO_TX_R14N/DIFFIN_R14N (io), T1 IO/DQ7R/DIFFIO_RX_R16N/DIFFOUT_R16N (io), T2 IO/DQ8R/DIFFIO_RX_R13N/DIFFOUT_R13N (io), T3 IO/DIFFIO_RX_R13P/DIFFOUT_R13P (io), T4 IO/DQSN10R/DIFFIO_TX_R10N/DIFFIN_R10N (io), T5 IO/DQS10R/DIFFIO_TX_R10P/DIFFIN_R10P (io), U1 IO/DQS7R/DIFFIO_TX_R15P/DIFFIN_R15P (io), U3 IO/DQ10R/DIFFIO_RX_R9N/DIFFOUT_R9N (io), U4 IO/DIFFIO_RX_R9P/DIFFOUT_R9P (io), V1 IO/DQSN7R/DIFFIO_TX_R15N/DIFFIN_R15N (io), V3 IO/DQS9R/DIFFIO_TX_R11P/DIFFIN_R11P (io), W1 IO/DIFFIO_RX_R15P/DIFFOUT_R15P (io), W2 IO/DQSN9R/DIFFIO_TX_R11N/DIFFIN_R11N (io), W3 IO/DIFFIO_RX_R10P/DIFFOUT_R10P (io), Y1 IO/DQ7R/DIFFIO_RX_R15N/DIFFOUT_R15N (io), Y3 IO/DQ10R/DIFFIO_RX_R10N/DIFFOUT_R10N (io)
part G pins: E1 IO/DQS3R/DIFFIO_TX_R23P/DIFFIN_R23P (io), F1 IO/DQSN3R/DIFFIO_TX_R23N/DIFFIN_R23N (io), F3 IO/DQ3R/DIFFIO_RX_R24P/DIFFOUT_R24P (io), G1 IO/DQ4R/DIFFIO_RX_R22N/DIFFOUT_R22N (io), G2 IO/DIFFIO_RX_R22P/DIFFOUT_R22P (io), G3 IO/DQ3R/DIFFIO_RX_R24N/DIFFOUT_R24N (io), H1 IO/DQ4R/DIFFIO_TX_R21P/DIFFIN_R21P (io), H3 IO/DQ3R/DIFFIO_RX_R23N/DIFFOUT_R23N (io), H4 IO/DIFFIO_RX_R23P/DIFFOUT_R23P (io), H6 IO/DQ3R/DIFFIO_TX_R24N/DIFFIN_R24N (io), H7 IO/DIFFIO_TX_R24P/DIFFIN_R24P (io), J1 IO/DQ4R/DIFFIO_TX_R21N/DIFFIN_R21N (io), J3 IO/DQ4R/DIFFIO_RX_R21N/DIFFOUT_R21N (io), J4 IO/DIFFIO_RX_R21P/DIFFOUT_R21P (io), J5 IO/DQSN4R/DIFFIO_TX_R22N/DIFFIN_R22N (io), J6 IO/DQS4R/DIFFIO_TX_R22P/DIFFIN_R22P (io), K1 IO/DQS5R/DIFFIO_TX_R19P/DIFFIN_R19P (io), K2 IO/DQ5R/DIFFIO_RX_R20N/DIFFOUT_R20N (io), K3 IO/DQ5R/DIFFIO_RX_R20P/DIFFOUT_R20P (io), K4 IO/DQ5R/DIFFIO_TX_R20N/DIFFIN_R20N (io), K5 IO/DIFFIO_TX_R20P/DIFFIN_R20P (io), L1 IO/DQSN5R/DIFFIO_TX_R19N/DIFFIN_R19N (io), L3 IO/DQ5R/DIFFIO_RX_R19N/DIFFOUT_R19N (io), L4 IO/DIFFIO_RX_R19P/DIFFOUT_R19P (io), L7 IO/DQS6R/DIFFIO_TX_R18P/DIFFIN_R18P (io), M1 IO/DQ6R/DIFFIO_RX_R18N/DIFFOUT_R18N (io), M3 IO/DQ6R/DIFFIO_RX_R17N/DIFFOUT_R17N (io), M4 IO/DIFFIO_RX_R17P/DIFFOUT_R17P (io), M7 IO/DQSN6R/DIFFIO_TX_R18N/DIFFIN_R18N (io), N1 IO/DQ6R/DIFFIO_TX_R17P/DIFFIN_R17P (io), N2 IO/DIFFIO_RX_R18P/DIFFOUT_R18P (io), P1 IO/DQ6R/DIFFIO_TX_R17N/DIFFIN_R17N (io)
part H pins: B1 IO/DQ1R/DIFFIO_RX_R32P/DIFFOUT_R32P (io), C1 IO/DQ1R/DIFFIO_RX_R32N/DIFFOUT_R32N (io), C2 IO/DQSN1R/DIFFIO_TX_R31N/DIFFIN_R31N (io), C3 IO/DQS1R/DIFFIO_TX_R31P/DIFFIN_R31P (io), D1 IO/DQ2R/DIFFIO_TX_R29N/DIFFIN_R29N/DATA7 (io), D2 IO/DQ2R/DIFFIO_TX_R29P/DIFFIN_R29P/DATA5 (io), D3 IO/DIFFIO_RX_R29P/DIFFOUT_R29P/DATA4 (io), D4 IO/DIFFIO_RX_R31P/DIFFOUT_R31P/DEV_OE (io), E3 IO/DQ2R/DIFFIO_RX_R29N/DIFFOUT_R29N/DATA6 (io), E4 IO/DQ1R/DIFFIO_RX_R31N/DIFFOUT_R31N (io), F4 IO/DIFFIO_RX_R30P/DIFFOUT_R30P/CLKUSR (io), F7 IO/DIFFIO_TX_R32P/DIFFIN_R32P/DEV_CLRN (io), G4 IO/DQ2R/DIFFIO_RX_R30N/DIFFOUT_R30N/DATA2 (io), G5 IO/DQSN2R/DIFFIO_TX_R30N/DIFFIN_R30N/DATA3 (io), G6 IO/DQS2R/DIFFIO_TX_R30P/DIFFIN_R30P/DATA1 (io), G7 IO/DQ1R/DIFFIO_TX_R32N/DIFFIN_R32N (io)
part I pins: A2 IO/DQ7T/DIFFIO_RX_T7N/DIFFOUT_T7N (io), A3 IO/DIFFIO_RX_T7P/DIFFOUT_T7P (io), A4 IO/DQ8T/DIFFIO_RX_T6N/DIFFOUT_T6N (io), A5 IO/DQ7T/DIFFIO_TX_T8N/DIFFIN_T8N (io), A6 IO/DQ7T/DIFFIO_TX_T8P/DIFFIN_T8P (io), B3 IO/DIFFIO_RX_T6P/DIFFOUT_T6P (io), B4 IO/DQSN8T/DIFFIO_TX_T6N/DIFFIN_T6N (io), C4 IO/DQS8T/DIFFIO_TX_T6P/DIFFIN_T6P (io), C6 IO/DQ8T/DIFFIO_RX_T5N/DIFFOUT_T5N (io), C7 IO/DQ7T/DIFFIO_RX_T8N/DIFFOUT_T8N (io), D6 IO/DQ8T/DIFFIO_RX_T5P/DIFFOUT_T5P (io), D8 IO/DIFFIO_RX_T8P/DIFFOUT_T8P (io), E9 IO/DQSN7T/DIFFIO_TX_T7N/DIFFIN_T7N (io), F9 IO/DQS7T/DIFFIO_TX_T7P/DIFFIN_T7P (io), G9 IO/DQ8T/DIFFIO_TX_T5N/DIFFIN_T5N (io), H9 IO/DIFFIO_TX_T5P/DIFFIN_T5P (io)
part J pins: A7 IO/DQ6T/DIFFIO_RX_T14N/DIFFOUT_T14N (io), A8 IO/DIFFIO_RX_T14P/DIFFOUT_T14P (io), A9 IO/DQ5T/DIFFIO_RX_T16N/DIFFOUT_T16N (io), A10 IO/DQ5T/DIFFIO_TX_T16N/DIFFIN_T16N (io), B6 IO/DQSN6T/DIFFIO_TX_T14N/DIFFIN_T14N (io), B7 IO/DQS6T/DIFFIO_TX_T14P/DIFFIN_T14P (io), B9 IO/DIFFIO_RX_T16P/DIFFOUT_T16P (io), B10 IO/DQ5T/DIFFIO_TX_T16P/DIFFIN_T16P (io), C9 IO/DQ6T/DIFFIO_RX_T13N/DIFFOUT_T13N (io), C10 IO/DQ5T/DIFFIO_RX_T15N/DIFFOUT_T15N (io), D9 IO/DQ6T/DIFFIO_RX_T13P/DIFFOUT_T13P (io), D10 IO/DIFFIO_RX_T15P/DIFFOUT_T15P (io), E10 IO/DQSN5T/DIFFIO_TX_T15N/DIFFIN_T15N (io), F10 IO/DQS5T/DIFFIO_TX_T15P/DIFFIN_T15P (io), G10 IO/DQ6T/DIFFIO_TX_T13N/DIFFIN_T13N (io), G11 IO/DIFFIO_TX_T13P/DIFFIN_T13P (io)
part K pins: A11 IO/DQSN4T/DIFFIO_TX_T18N/DIFFIN_T18N (io), A12 IO/DQS4T/DIFFIO_TX_T18P/DIFFIN_T18P (io), A13 IO/DQ3T/DIFFIO_RX_T19N/DIFFOUT_T19N (io), A14 IO/DQ3T/DIFFIO_TX_T20N/DIFFIN_T20N (io), B12 IO/DQ4T/DIFFIO_RX_T18N/DIFFOUT_T18N (io), B13 IO/DIFFIO_RX_T19P/DIFFOUT_T19P (io), B15 IO/DQ3T/DIFFIO_TX_T20P/DIFFIN_T20P (io), C12 IO/DIFFIO_RX_T18P/DIFFOUT_T18P (io), C13 IO/DQ3T/DIFFIO_RX_T20N/DIFFOUT_T20N (io), D12 IO/DQ4T/DIFFIO_RX_T17N/DIFFOUT_T17N (io), D13 IO/DQ4T/DIFFIO_TX_T17N/DIFFIN_T17N (io), D14 IO/DIFFIO_RX_T20P/DIFFOUT_T20P (io), E12 IO/DQ4T/DIFFIO_RX_T17P/DIFFOUT_T17P (io), E13 IO/DIFFIO_TX_T17P/DIFFIN_T17P (io), F13 IO/DQSN3T/DIFFIO_TX_T19N/DIFFIN_T19N (io), G13 IO/DQS3T/DIFFIO_TX_T19P/DIFFIN_T19P (io)
part L pins: A15 IO/DQSN2T/DIFFIO_TX_T26N/DIFFIN_T26N (io), A16 IO/DQS2T/DIFFIO_TX_T26P/DIFFIN_T26P (io), A17 IO/DQ1T/DIFFIO_RX_T27N/DIFFOUT_T27N (io), A18 IO/DIFFIO_RX_T27P/DIFFOUT_T27P (io), A19 IO/DQ1T/DIFFIO_TX_T28N/DIFFIN_T28N (io), A20 IO/DQ1T/DIFFIO_TX_T28P/DIFFIN_T28P (io), B16 IO/DQ2T/DIFFIO_RX_T26N/DIFFOUT_T26N (io), B18 IO/DQ1T/DIFFIO_RX_T28N/DIFFOUT_T28N (io), C15 IO/DQ2T/DIFFIO_RX_T25N/DIFFOUT_T25N (io), C16 IO/DIFFIO_RX_T26P/DIFFOUT_T26P (io), C19 IO/DIFFIO_RX_T28P/DIFFOUT_T28P/CRC_ERROR (io), D15 IO/DQ2T/DIFFIO_RX_T25P/DIFFOUT_T25P (io), E15 IO/DQSN1T/DIFFIO_TX_T27N/DIFFIN_T27N (io), F14 IO/DQ2T/DIFFIO_TX_T25N/DIFFIN_T25N (io), F15 IO/DQS1T/DIFFIO_TX_T27P/DIFFIN_T27P (io), G14 IO/DIFFIO_TX_T25P/DIFFIN_T25P (io)
part M pins: AA13 CLK4_DIFFCLK_0N (io), AD13 CLK7_DIFFCLK_1P (io), AD14 CLK5_DIFFCLK_1N (io), C11 CLK14_DIFFCLK_4N (io), D11 CLK12_DIFFCLK_4P (io), F11 CLK15_DIFFCLK_5N (io), F12 CLK13_DIFFCLK_5P (io), G15 VREFB8AN0 (io), H12 VREFB7AN0 (io), J7 VREFB6AN0 (io), N3 CLK9_DIFFCLK_3N (io), N4 CLK11_DIFFCLK_3P (io), P3 CLK8_DIFFCLK_2N (io), P4 CLK10_DIFFCLK_2P (io), T16 VREFB3AN0 (io), U7 VREFB5AN0 (io), V10 VREFB4AN0 (io), Y13 CLK6_DIFFCLK_0P (io)
part N pins: D18 TCK (io), F20 DCLK (io), G17 TMS (io), G19 TDI (io), G20 TDO (io), H19 NCSO (io), J19 DATA0 (io), J20 ASDO (io), T19 MSEL1 (io), T20 MSEL3 (io), U18 NSTATUS (io), U19 NIO_PULLUP (io), V18 NCE (io), V20 NCONFIG (io), W19 CONF_DONE (io), W20 MSEL2 (io), Y19 MSEL0 (io)
part O pins: AA9 PLL3_CLKOUT1N (io), AA20 RUP0 (io), AB20 RDN0 (io), B19 RDN2 (io), C20 RUP2 (io), D7 RDN1 (io), E7 RUP1 (io), F8 PLL2_CLKOUT1N (io), G8 PLL2_CLKOUT1P (io), G16 PLL1_CLKOUT1N (io), H16 PLL1_CLKOUT1P (io), W16 PLL4_CLKOUT1P (io), Y9 PLL3_CLKOUT1P (io), Y16 PLL4_CLKOUT1N (io)
part P pins: AA23 GXB_RX0P (io), AA24 GXB_RX0N (io), AC24 RREF0 (io), B21 GXB_TX7P (io), B22 GXB_TX7N (io), C23 GXB_RX7P (io), C24 GXB_RX7N (io), D21 GXB_TX6P (io), D22 GXB_TX6N (io), E23 GXB_RX6P (io), E24 GXB_RX6N (io), F21 REFCLK5P (io), F22 REFCLK5N (io), G23 REFCLK1P (io), G24 REFCLK1N (io), H21 GXB_TX5P (io), H22 GXB_TX5N (io), J23 GXB_RX5P (io), J24 GXB_RX5N (io), K21 GXB_TX4P (io), K22 GXB_TX4N (io), L23 GXB_RX4P (io), L24 GXB_RX4N (io), M21 GXB_TX3P (io), M22 GXB_TX3N (io), N23 GXB_RX3P (io), N24 GXB_RX3N (io), P21 GXB_TX2P (io), P22 GXB_TX2N (io), R23 GXB_RX2P (io), R24 GXB_RX2N (io), T21 REFCLK4P (io), T22 REFCLK4N (io), U23 REFCLK0P (io), U24 REFCLK0N (io), V21 GXB_TX1P (io), V22 GXB_TX1N (io), W23 GXB_RX1P (io), W24 GXB_RX1N (io), Y21 GXB_TX0P (io), Y22 GXB_TX0N (io)
part Q pins: AA2 VCCIO5A (power), AA17 VCCIO3A (power), AC7 VCCIO4A (power), AC10 VCCIO4A (power), AC16 VCCIO3A (power), C5 VCCIO7A (power), C8 VCCIO7A (power), C14 VCCIO8A (power), C17 VCCIO8A (power), D16 VCCIO8A (power), E6 VCCA_PLL_2 (power), E18 VCCD_PLL_1 (power), E19 VCCIO8C (power), F2 VCCIO6A (power), F5 VCCD_PLL_2 (power), F17 VCCA_PLL_1 (power), F19 VCCBAT (power), G12 VCCCB (power), H10 VCCPD7A (power), H13 VCCPD8A (power), H15 VCC (power), H18 VCCPD8C (power), J2 VCCIO6A (power), J8 VCC (power), J10 VCC (power), J12 VCC (power), J14 VCC (power), J16 VCC (power), J18 VCC (power), K6 VCCPD6A (power), K7 VCCPD6A (power), K9 VCC (power), K11 VCC (power), K13 VCC (power), K15 VCC (power), K17 VCC (power), K18 VCCH_GXB (power), K19 VCCL_GXB (power), L8 VCC (power), L10 VCC (power), L12 VCC (power), L14 VCC (power), L16 VCC (power), L18 VCCA (power), L20 VCCL_GXB (power), M2 VCCIO6A (power), M6 VCCCB (power), M9 VCC (power), M11 VCC (power), M13 VCC (power), M15 VCC (power), M19 VCCL_GXB (power), N8 VCC (power), N10 VCC (power), N14 VCC (power), N16 VCC (power), N18 VCC (power), N20 VCCL_GXB (power), P9 VCC (power), P11 VCC (power), P13 VCC (power), P15 VCC (power), P17 VCC (power), P18 VCCA (power), P19 VCCL_GXB (power), R2 VCCIO5A (power), R8 VCC (power), R10 VCC (power), R12 VCC (power), R14 VCC (power), R16 VCC (power), R18 VCCH_GXB (power), R20 VCCL_GXB (power), T7 VCCPD5A (power), T8 VCCPD5A (power), T9 VCC (power), T11 VCC (power), T13 VCC (power), T15 VCC (power), T17 VCC (power), U10 VCCPD4A (power), U12 VCC (power), U13 VCCCB (power), U15 VCCPD3A (power), V2 VCCIO5A (power), V17 VCCPD3C (power), V19 VCCIO3C (power), W5 VCCD_PLL_3 (power), W17 VCCA_PLL_4 (power), Y6 VCCA_PLL_3 (power), Y10 VCCIO4A (power), Y18 VCCD_PLL_4 (power)
part R pins: A21 GND (power), A22 GND (power), A23 GND (power), AA21 GND (power), AA22 GND (power), AB22 GND (power), AB23 GND (power), AB24 GND (power), AC2 GND (power), AC5 GND (power), AC8 GND (power), AC11 GND (power), AC14 GND (power), AC17 GND (power), AC20 GND (power), AC23 GND (power), AD23 GND (power), B2 GND (power), B5 GND (power), B8 GND (power), B11 GND (power), B14 GND (power), B17 GND (power), B20 GND (power), B23 GND (power), B24 GND (power), C21 GND (power), C22 GND (power), D19 GND (power), D20 GND (power), D23 GND (power), D24 GND (power), E2 GND (power), E5 GND (power), E8 GND (power), E11 GND (power), E14 GND (power), E17 GND (power), E20 GND (power), E21 GND (power), E22 GND (power), F6 GND (power), F18 GND (power), F23 GND (power), F24 GND (power), G21 GND (power), G22 GND (power), H2 GND (power), H5 GND (power), H8 GND (power), H11 GND (power), H14 GND (power), H17 GND (power), H20 GND (power), H23 GND (power), H24 GND (power), J9 GND (power), J11 GND (power), J13 GND (power), J15 GND (power), J17 GND (power), J21 GND (power), J22 GND (power), K8 GND (power), K10 GND (power), K12 GND (power), K14 GND (power), K16 GND (power), K20 GND (power), K23 GND (power), K24 GND (power), L2 GND (power), L5 GND (power), L9 GND (power), L11 GND (power), L13 GND (power), L15 GND (power), L17 GND (power), L19 GND (power), L21 GND (power), L22 GND (power), M8 GND (power), M10 GND (power), M12 GND (power), M14 GND (power), M16 GND (power), M18 GND (power), M20 GND (power), M23 GND (power), M24 GND (power), N9 GND (power), N11 GND (power), N13 GND (power), N15 GND (power), N17 GND (power), N19 GND (power), N21 GND (power), N22 GND (power), P2 GND (power), P5 GND (power), P8 GND (power), P10 GND (power), P12 GND (power), P14 GND (power), P16 GND (power), P20 GND (power), P23 GND (power), P24 GND (power), R9 GND (power), R11 GND (power), R13 GND (power), R15 GND (power), R17 GND (power), R19 GND (power), R21 GND (power), R22 GND (power), T10 GND (power), T12 GND (power), T14 GND (power), T18 GND (power), T23 GND (power), T24 GND (power), U2 GND (power), U5 GND (power), U8 GND (power), U11 GND (power), U14 GND (power), U17 GND (power), U20 GND (power), U21 GND (power), U22 GND (power), V23 GND (power), V24 GND (power), W6 GND (power), W18 GND (power), W21 GND (power), W22 GND (power), Y2 GND (power), Y5 GND (power), Y8 GND (power), Y11 GND (power), Y14 GND (power), Y17 GND (power), Y20 GND (power), Y23 GND (power), Y24 GND (power)
part S pins: AC22 NC (io), AD22 NC (io), C18 NC (io), D5 NC (io), D17 NC (io), E16 NC (io), F16 NC (io), G18 NC (io), L6 NC (io), M5 NC (io), M17 NC (io), N5 NC (io), N12 NC (io), P6 NC (io), V8 NC (io), W7 NC (io), W8 NC (io), Y7 NC (io)
part A text: BANK 3A
part B text: BANK 3A
part C text: BANK 4A
part D text: BANK 4A
part E text: BANK 5A
part F text: BANK 5A
part G text: BANK 6A
part H text: BANK 6A
part I text: BANK 7A
part J text: BANK 7A
part K text: BANK 8A
part L text: BANK 8A

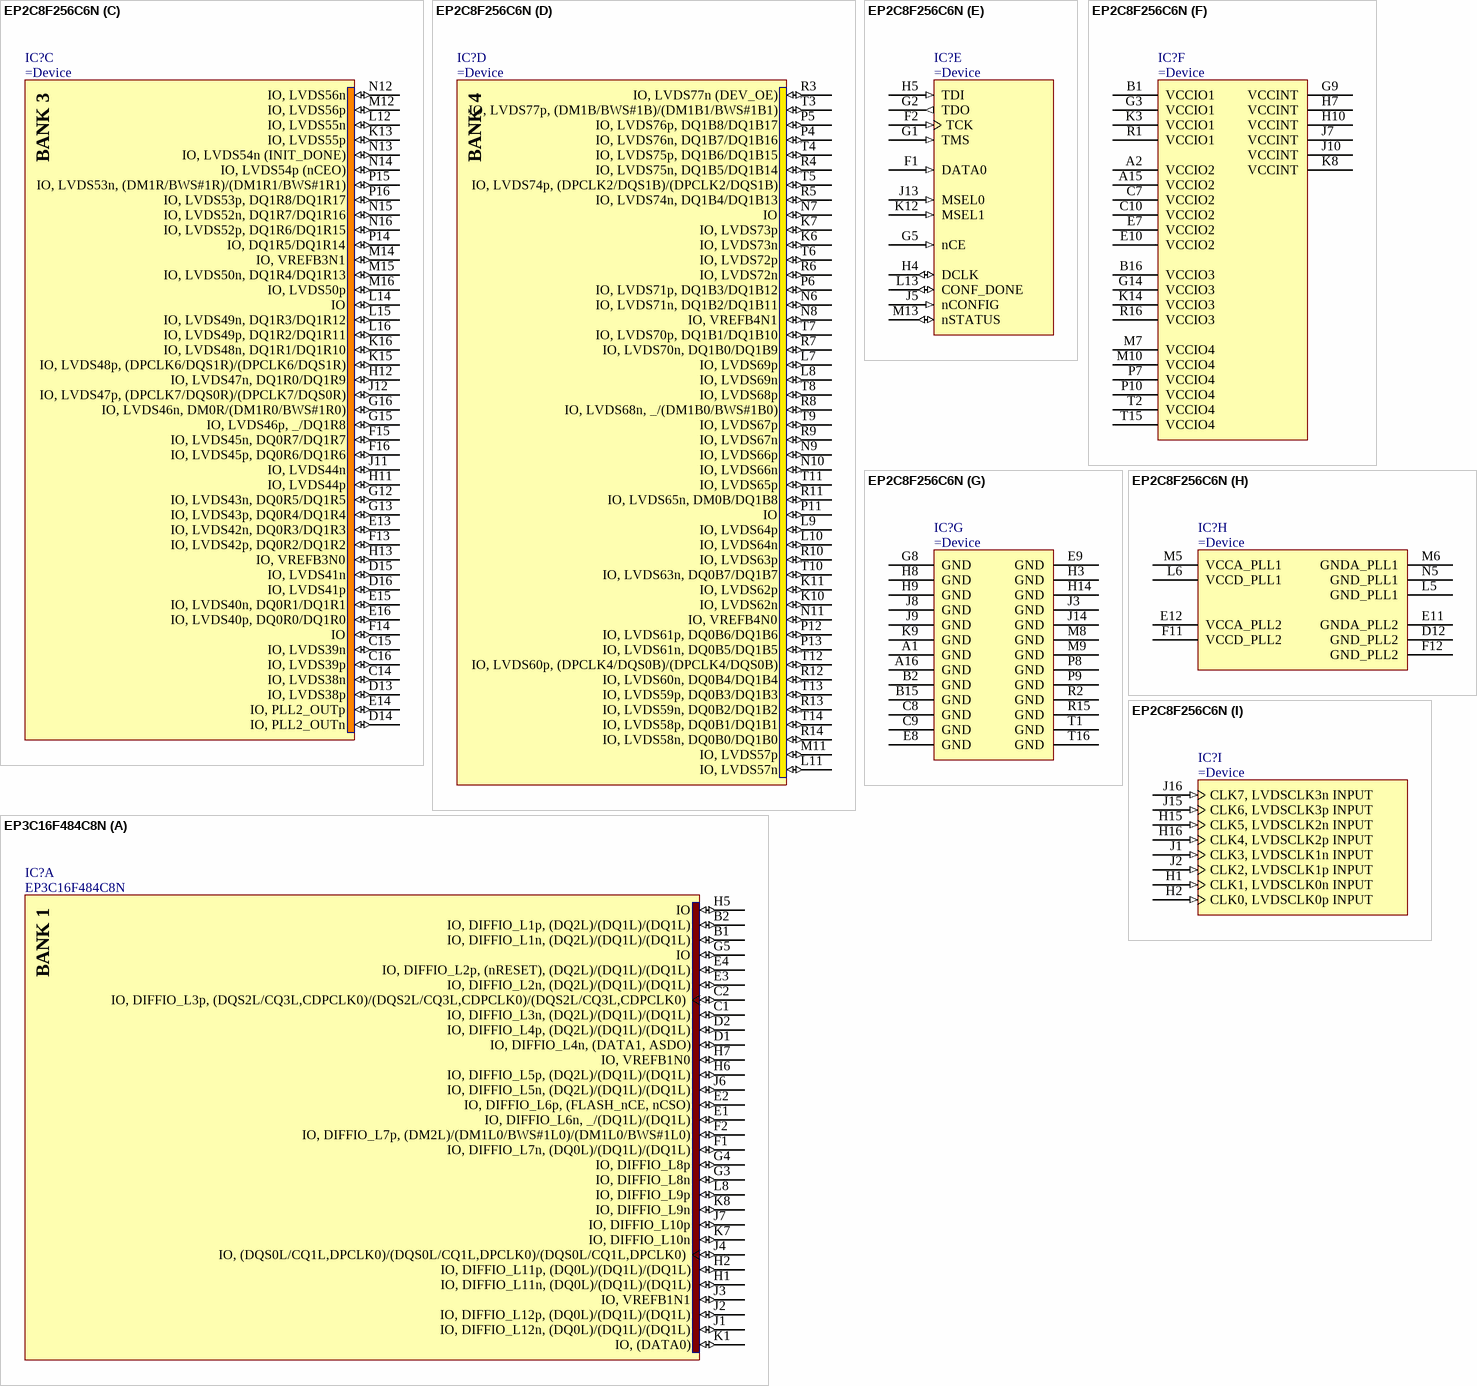
[diagram p52: symbols EP2C8F256C6N to EP3C16F484C8N]